# Altium integrated library Atmel Microcontroller 8-16-Bit AVR XMEGA.IntLib: 50 symbols (part 1 of 3)
Pins are listed as number, name and electrical type; pins without a type are passive.

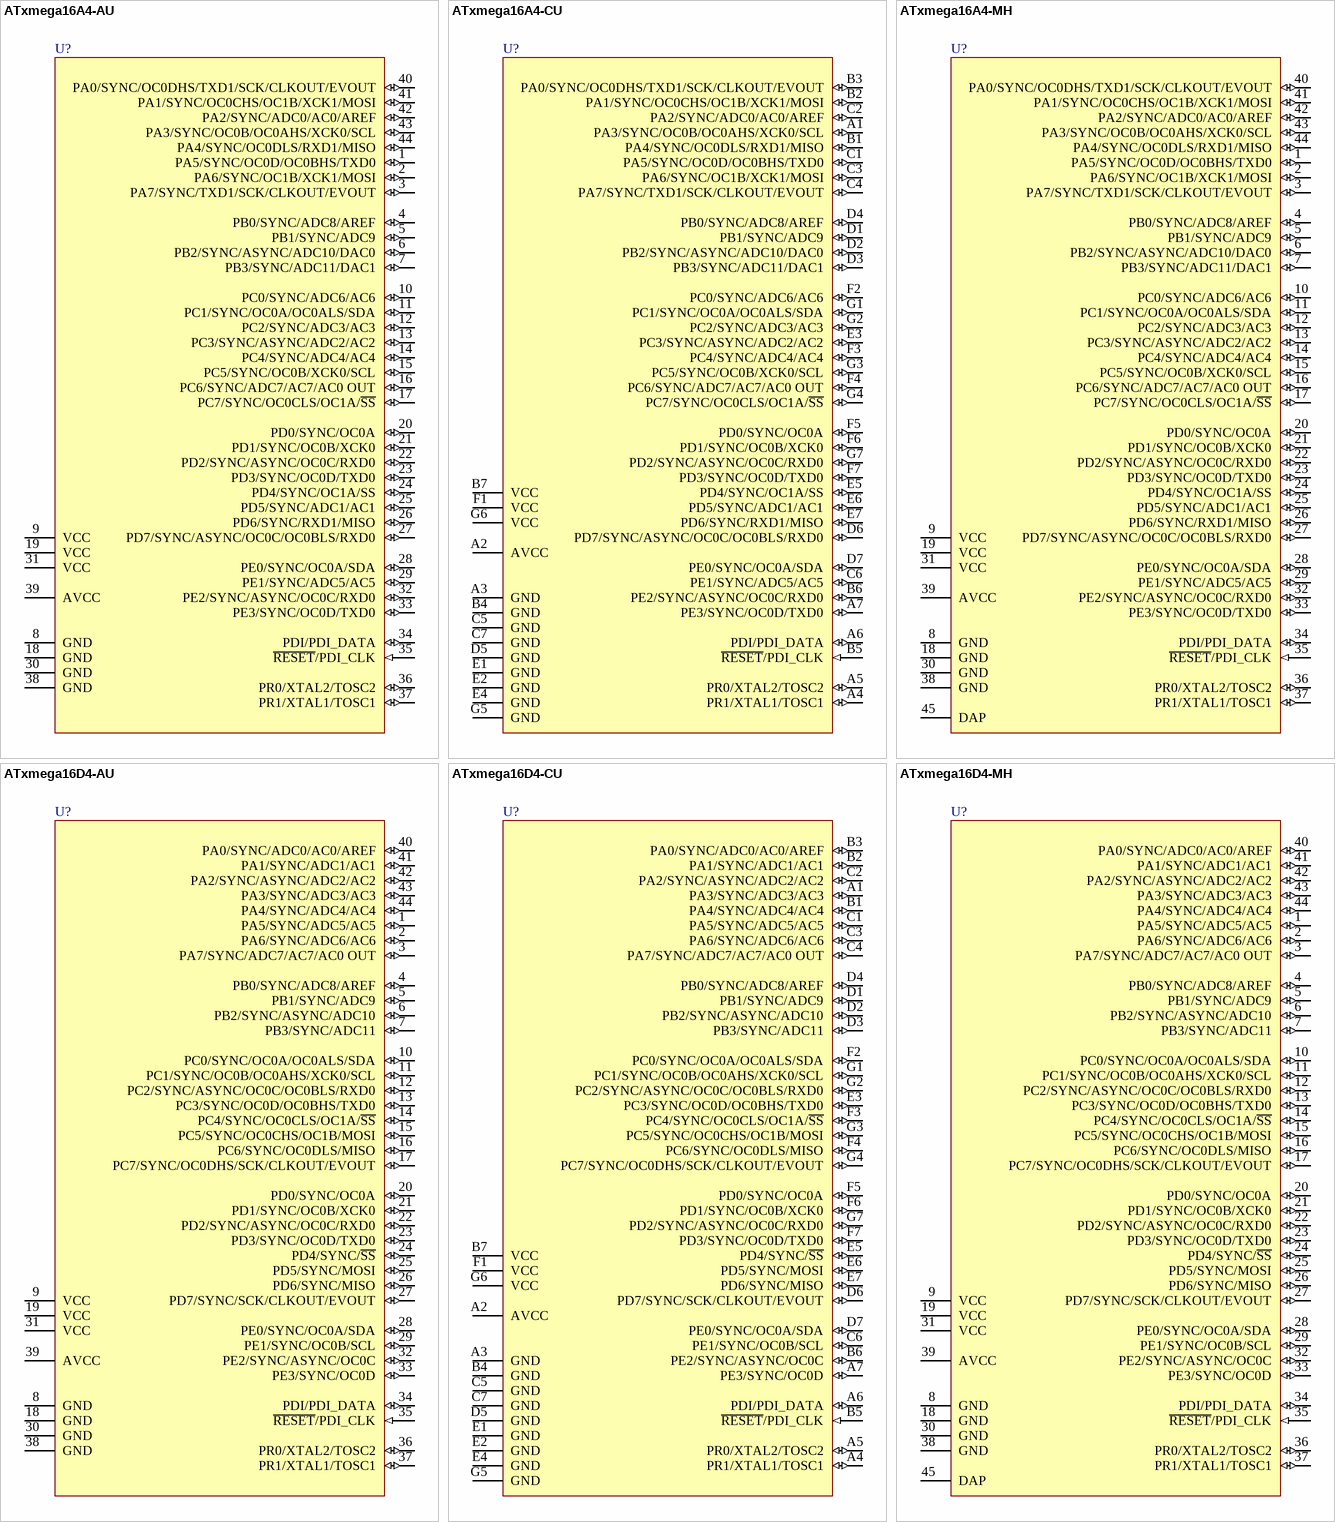
[diagram p0: symbols ATxmega16A4-AU to ATxmega16D4-MH]

## ATxmega16A4-AU
designator U?
8/16-bit AVR XMEGA A4 Microcontroller, 1.6-3.6V, 16KB + 4KB Flash, 1KB EEPROM, 2KB SRAM, 44-pin TQFP, Industrial Grade (-40°C to 85°C), Pb-Free; Published: 1-Apr-2010; DatasheetVersion: revN, Feb-2010; PackageVersion: rev.B, Oct-2001; PackageReference: 44A; Publisher: Altium Limited; PackageDescription: 44-Pin Plastic Thin Profile Quad Flat Pack, 10 x 10 x 1.0 mm Body, 0.8 mm Pitch (TQFP); Supplier 1: Digi-Key; Supplier Part Number 1: ATXMEGA16A4-AU-ND; Supplier 2: Farnell; Supplier Part Number 2: 1748552; Supplier 3: Mouser; Supplier Part Number 3: 556-ATXMEGA16A4-AU; ComponentLink1Description: Manufacturer Link; ComponentLink1URL: http://www.atmel.com/products/avr/default.asp?; ComponentLink2Description: ATxmega16A4/32A4/64A4/128A4 Datasheet; ComponentLink2URL: http://www.atmel.com/dyn/resources/prod_documents/doc8069.pdf; ComponentLink3Description: Atmel.com Home; ComponentLink3URL: http://www.atmel.com
footprint 44A_N (Thin QFP, 44-Leads, Body 10x10mm, Pitch 0.8mm, IPC Medium Density)
footprint 44A_L (Thin QFP, 44-Leads, Body 10x10mm, Pitch 0.8mm, IPC High Density)
footprint 44A_M (Thin QFP, 44-Leads, Body 10x10mm, Pitch 0.8mm, IPC Low Density)
pins: 1 PA5/SYNC/OC0D/OC0BHS/TXD0 (io), 2 PA6/SYNC/OC1B/XCK1/MOSI (io), 3 PA7/SYNC/TXD1/SCK/CLKOUT/EVOUT (io), 4 PB0/SYNC/ADC8/AREF (io), 5 PB1/SYNC/ADC9 (io), 6 PB2/SYNC/ASYNC/ADC10/DAC0 (io), 7 PB3/SYNC/ADC11/DAC1 (io), 8 GND (power), 9 VCC (power), 10 PC0/SYNC/ADC6/AC6 (io), 11 PC1/SYNC/OC0A/OC0ALS/SDA (io), 12 PC2/SYNC/ADC3/AC3 (io), 13 PC3/SYNC/ASYNC/ADC2/AC2 (io), 14 PC4/SYNC/ADC4/AC4 (io), 15 PC5/SYNC/OC0B/XCK0/SCL (io), 16 PC6/SYNC/ADC7/AC7/AC0 OUT (io), 17 PC7/SYNC/OC0CLS/OC1A/~{SS} (io), 18 GND (power), 19 VCC (power), 20 PD0/SYNC/OC0A (io), 21 PD1/SYNC/OC0B/XCK0 (io), 22 PD2/SYNC/ASYNC/OC0C/RXD0 (io), 23 PD3/SYNC/OC0D/TXD0 (io), 24 PD4/SYNC/OC1A/SS (io), 25 PD5/SYNC/ADC1/AC1 (io), 26 PD6/SYNC/RXD1/MISO (io), 27 PD7/SYNC/ASYNC/OC0C/OC0BLS/RXD0 (io), 28 PE0/SYNC/OC0A/SDA (io), 29 PE1/SYNC/ADC5/AC5 (io), 30 GND (power), 31 VCC (power), 32 PE2/SYNC/ASYNC/OC0C/RXD0 (io), 33 PE3/SYNC/OC0D/TXD0 (io), 34 PDI/PDI_DATA (io), 35 ~{RESET}/PDI_CLK (in), 36 PR0/XTAL2/TOSC2 (io), 37 PR1/XTAL1/TOSC1 (io), 38 GND (power), 39 AVCC (power), 40 PA0/SYNC/OC0DHS/TXD1/SCK/CLKOUT/EVOUT (io), 41 PA1/SYNC/OC0CHS/OC1B/XCK1/MOSI (io), 42 PA2/SYNC/ADC0/AC0/AREF (io), 43 PA3/SYNC/OC0B/OC0AHS/XCK0/SCL (io), 44 PA4/SYNC/OC0DLS/RXD1/MISO (io)

## ATxmega16A4-CU
designator U?
8/16-bit AVR XMEGA A4 Microcontroller, 1.6-3.6V, 16KB + 4KB Flash, 1KB EEPROM, 2KB SRAM, 49-pin VFBGA, Industrial Grade (-40°C to 85°C), Pb-Free; Published: 1-Apr-2010; DatasheetVersion: revN, Feb-2010; PackageVersion: revA, Mar-2008; PackageReference: 49C2; Publisher: Altium Limited; PackageDescription: 49-Ball Very Thin Fine-Pitch BGA, 5 x 5 x 1 mm Body, 0.65 mm Pitch (VFBGA); Supplier 1: Digi-Key; Supplier Part Number 1: ATXMEGA16A4-CU-ND; Supplier 2: Mouser; Supplier Part Number 2: 556-ATXMEGA16A4-CU; ComponentLink1Description: Manufacturer Link; ComponentLink1URL: http://www.atmel.com/products/avr/default.asp?; ComponentLink2Description: ATxmega16A4/32A4/64A4/128A4 Datasheet; ComponentLink2URL: http://www.atmel.com/dyn/resources/prod_documents/doc8069.pdf; ComponentLink3Description: Atmel.com Home; ComponentLink3URL: http://www.atmel.com
footprint 49C2 (BGA, 49-Leads, Body 5x5mm, Pitch 0.65mm)
pins: A1 PA3/SYNC/OC0B/OC0AHS/XCK0/SCL (io), A2 AVCC (power), A3 GND (power), A4 PR1/XTAL1/TOSC1 (io), A5 PR0/XTAL2/TOSC2 (io), A6 PDI/PDI_DATA (io), A7 PE3/SYNC/OC0D/TXD0 (io), B1 PA4/SYNC/OC0DLS/RXD1/MISO (io), B2 PA1/SYNC/OC0CHS/OC1B/XCK1/MOSI (io), B3 PA0/SYNC/OC0DHS/TXD1/SCK/CLKOUT/EVOUT (io), B4 GND (power), B5 ~{RESET}/PDI_CLK (in), B6 PE2/SYNC/ASYNC/OC0C/RXD0 (io), B7 VCC (power), C1 PA5/SYNC/OC0D/OC0BHS/TXD0 (io), C2 PA2/SYNC/ADC0/AC0/AREF (io), C3 PA6/SYNC/OC1B/XCK1/MOSI (io), C4 PA7/SYNC/TXD1/SCK/CLKOUT/EVOUT (io), C5 GND (power), C6 PE1/SYNC/ADC5/AC5 (io), C7 GND (power), D1 PB1/SYNC/ADC9 (io), D2 PB2/SYNC/ASYNC/ADC10/DAC0 (io), D3 PB3/SYNC/ADC11/DAC1 (io), D4 PB0/SYNC/ADC8/AREF (io), D5 GND (power), D6 PD7/SYNC/ASYNC/OC0C/OC0BLS/RXD0 (io), D7 PE0/SYNC/OC0A/SDA (io), E1 GND (power), E2 GND (power), E3 PC3/SYNC/ASYNC/ADC2/AC2 (io), E4 GND (power), E5 PD4/SYNC/OC1A/SS (io), E6 PD5/SYNC/ADC1/AC1 (io), E7 PD6/SYNC/RXD1/MISO (io), F1 VCC (power), F2 PC0/SYNC/ADC6/AC6 (io), F3 PC4/SYNC/ADC4/AC4 (io), F4 PC6/SYNC/ADC7/AC7/AC0 OUT (io), F5 PD0/SYNC/OC0A (io), F6 PD1/SYNC/OC0B/XCK0 (io), F7 PD3/SYNC/OC0D/TXD0 (io), G1 PC1/SYNC/OC0A/OC0ALS/SDA (io), G2 PC2/SYNC/ADC3/AC3 (io), G3 PC5/SYNC/OC0B/XCK0/SCL (io), G4 PC7/SYNC/OC0CLS/OC1A/~{SS} (io), G5 GND (power), G6 VCC (power), G7 PD2/SYNC/ASYNC/OC0C/RXD0 (io)

## ATxmega16A4-MH
designator U?
8/16-bit AVR XMEGA A4 Microcontroller, 1.6-3.6V, 16KB + 4KB Flash, 1KB EEPROM, 2KB SRAM, 44-pin VQFN, Industrial Grade (-40°C to 85°C), Pb-Free; Published: 1-Apr-2010; DatasheetVersion: revN, Feb-2010; PackageVersion: revH, Sep-2008; PackageReference: 44M1; Publisher: Altium Limited; PackageDescription: 44-Pin Plastic Very Thin Quad Flat No-Lead Package, 7 x 7 x 1.0 mm Body, 0.5 mm Pitch (VQFN), 5.2 mm Exposed Pad; Supplier 1: Digi-Key; Supplier Part Number 1: ATXMEGA16A4-MH-ND; Supplier 2: Mouser; Supplier Part Number 2: 556-ATXMEGA16A4-MH; Code_JEDEC: MO-220-VKKD-1; ComponentLink1Description: Manufacturer Link; ComponentLink1URL: http://www.atmel.com/products/avr/default.asp?; ComponentLink2Description: ATxmega16A4/32A4/64A4/128A4 Datasheet; ComponentLink2URL: http://www.atmel.com/dyn/resources/prod_documents/doc8069.pdf; ComponentLink3Description: Atmel.com Home; ComponentLink3URL: http://www.atmel.com
footprint 44M1_N (QFN, 44-Leads, Body 7x7mm, Pitch 0.5mm, IPC Medium Density)
footprint 44M1_L (QFN, 44-Leads, Body 7x7mm, Pitch 0.5mm, IPC High Density)
footprint 44M1_M (QFN, 44-Leads, Body 7x7mm, Pitch 0.5mm, IPC Low Density)
pins: 1 PA5/SYNC/OC0D/OC0BHS/TXD0 (io), 2 PA6/SYNC/OC1B/XCK1/MOSI (io), 3 PA7/SYNC/TXD1/SCK/CLKOUT/EVOUT (io), 4 PB0/SYNC/ADC8/AREF (io), 5 PB1/SYNC/ADC9 (io), 6 PB2/SYNC/ASYNC/ADC10/DAC0 (io), 7 PB3/SYNC/ADC11/DAC1 (io), 8 GND (power), 9 VCC (power), 10 PC0/SYNC/ADC6/AC6 (io), 11 PC1/SYNC/OC0A/OC0ALS/SDA (io), 12 PC2/SYNC/ADC3/AC3 (io), 13 PC3/SYNC/ASYNC/ADC2/AC2 (io), 14 PC4/SYNC/ADC4/AC4 (io), 15 PC5/SYNC/OC0B/XCK0/SCL (io), 16 PC6/SYNC/ADC7/AC7/AC0 OUT (io), 17 PC7/SYNC/OC0CLS/OC1A/~{SS} (io), 18 GND (power), 19 VCC (power), 20 PD0/SYNC/OC0A (io), 21 PD1/SYNC/OC0B/XCK0 (io), 22 PD2/SYNC/ASYNC/OC0C/RXD0 (io), 23 PD3/SYNC/OC0D/TXD0 (io), 24 PD4/SYNC/OC1A/SS (io), 25 PD5/SYNC/ADC1/AC1 (io), 26 PD6/SYNC/RXD1/MISO (io), 27 PD7/SYNC/ASYNC/OC0C/OC0BLS/RXD0 (io), 28 PE0/SYNC/OC0A/SDA (io), 29 PE1/SYNC/ADC5/AC5 (io), 30 GND (power), 31 VCC (power), 32 PE2/SYNC/ASYNC/OC0C/RXD0 (io), 33 PE3/SYNC/OC0D/TXD0 (io), 34 PDI/PDI_DATA (io), 35 ~{RESET}/PDI_CLK (in), 36 PR0/XTAL2/TOSC2 (io), 37 PR1/XTAL1/TOSC1 (io), 38 GND (power), 39 AVCC (power), 40 PA0/SYNC/OC0DHS/TXD1/SCK/CLKOUT/EVOUT (io), 41 PA1/SYNC/OC0CHS/OC1B/XCK1/MOSI (io), 42 PA2/SYNC/ADC0/AC0/AREF (io), 43 PA3/SYNC/OC0B/OC0AHS/XCK0/SCL (io), 44 PA4/SYNC/OC0DLS/RXD1/MISO (io), 45 DAP (power)

## ATxmega16D4-AU
designator U?
8/16-bit AVR XMEGA D4 Microcontroller, 1.6-3.6V, 16KB + 4KB Flash, 1KB EEPROM, 2KB SRAM, 44-pin TQFP, Industrial Grade (-40°C to 85°C), Pb-Free; Published: 1-Apr-2010; DatasheetVersion: revF, Feb-2010; PackageVersion: rev.B, Oct-2001; PackageReference: 44A; Publisher: Altium Limited; PackageDescription: 44-Pin Plastic Thin Profile Quad Flat Pack, 10 x 10 x 1.0 mm Body, 0.8 mm Pitch (TQFP); Supplier 1: Digi-Key; Supplier Part Number 1: ATXMEGA16D4-AU-ND; Supplier 2: Farnell; Supplier Part Number 2: 1748553; Supplier 3: Mouser; Supplier Part Number 3: 556-ATXMEGA16D4-AU; ComponentLink1Description: Manufacturer Link; ComponentLink1URL: http://www.atmel.com/products/avr/default.asp?; ComponentLink2Description: ATxmega128D4/64D4/32D4/16D4 Datasheet; ComponentLink2URL: http://www.atmel.com/dyn/resources/prod_documents/doc8135.pdf; ComponentLink3Description: Atmel.com Home; ComponentLink3URL: http://www.atmel.com
footprint 44A_N (Thin QFP, 44-Leads, Body 10x10mm, Pitch 0.8mm, IPC Medium Density)
footprint 44A_L (Thin QFP, 44-Leads, Body 10x10mm, Pitch 0.8mm, IPC High Density)
footprint 44A_M (Thin QFP, 44-Leads, Body 10x10mm, Pitch 0.8mm, IPC Low Density)
pins: 1 PA5/SYNC/ADC5/AC5 (io), 2 PA6/SYNC/ADC6/AC6 (io), 3 PA7/SYNC/ADC7/AC7/AC0 OUT (io), 4 PB0/SYNC/ADC8/AREF (io), 5 PB1/SYNC/ADC9 (io), 6 PB2/SYNC/ASYNC/ADC10 (io), 7 PB3/SYNC/ADC11 (io), 8 GND (power), 9 VCC (power), 10 PC0/SYNC/OC0A/OC0ALS/SDA (io), 11 PC1/SYNC/OC0B/OC0AHS/XCK0/SCL (io), 12 PC2/SYNC/ASYNC/OC0C/OC0BLS/RXD0 (io), 13 PC3/SYNC/OC0D/OC0BHS/TXD0 (io), 14 PC4/SYNC/OC0CLS/OC1A/~{SS} (io), 15 PC5/SYNC/OC0CHS/OC1B/MOSI (io), 16 PC6/SYNC/OC0DLS/MISO (io), 17 PC7/SYNC/OC0DHS/SCK/CLKOUT/EVOUT (io), 18 GND (power), 19 VCC (power), 20 PD0/SYNC/OC0A (io), 21 PD1/SYNC/OC0B/XCK0 (io), 22 PD2/SYNC/ASYNC/OC0C/RXD0 (io), 23 PD3/SYNC/OC0D/TXD0 (io), 24 PD4/SYNC/~{SS} (io), 25 PD5/SYNC/MOSI (io), 26 PD6/SYNC/MISO (io), 27 PD7/SYNC/SCK/CLKOUT/EVOUT (io), 28 PE0/SYNC/OC0A/SDA (io), 29 PE1/SYNC/OC0B/SCL (io), 30 GND (power), 31 VCC (power), 32 PE2/SYNC/ASYNC/OC0C (io), 33 PE3/SYNC/OC0D (io), 34 PDI/PDI_DATA (io), 35 ~{RESET}/PDI_CLK (in), 36 PR0/XTAL2/TOSC2 (io), 37 PR1/XTAL1/TOSC1 (io), 38 GND (power), 39 AVCC (power), 40 PA0/SYNC/ADC0/AC0/AREF (io), 41 PA1/SYNC/ADC1/AC1 (io), 42 PA2/SYNC/ASYNC/ADC2/AC2 (io), 43 PA3/SYNC/ADC3/AC3 (io), 44 PA4/SYNC/ADC4/AC4 (io)

## ATxmega16D4-CU
designator U?
8/16-bit AVR XMEGA D4 Microcontroller, 1.6-3.6V, 16KB + 4KB Flash, 1KB EEPROM, 2KB SRAM, 49-pin VFBGA, Industrial Grade (-40°C to 85°C), Pb-Free; Published: 1-Apr-2010; DatasheetVersion: revF, Feb-2010; PackageVersion: revA, Mar-2008; PackageReference: 49C2; Publisher: Altium Limited; PackageDescription: 49-Ball Very Thin Fine-Pitch BGA, 5 x 5 x 1 mm Body, 0.65 mm Pitch (VFBGA); Supplier 1: Digi-Key; Supplier Part Number 1: ATXMEGA16D4-CU-ND; Supplier 2: Mouser; Supplier Part Number 2: 556-ATXMEGA16D4-CU; ComponentLink1Description: Manufacturer Link; ComponentLink1URL: http://www.atmel.com/products/avr/default.asp?; ComponentLink2Description: ATxmega128D4/64D4/32D4/16D4 Datasheet; ComponentLink2URL: http://www.atmel.com/dyn/resources/prod_documents/doc8135.pdf; ComponentLink3Description: Atmel.com Home; ComponentLink3URL: http://www.atmel.com
footprint 49C2 (BGA, 49-Leads, Body 5x5mm, Pitch 0.65mm)
pins: A1 PA3/SYNC/ADC3/AC3 (io), A2 AVCC (power), A3 GND (power), A4 PR1/XTAL1/TOSC1 (io), A5 PR0/XTAL2/TOSC2 (io), A6 PDI/PDI_DATA (io), A7 PE3/SYNC/OC0D (io), B1 PA4/SYNC/ADC4/AC4 (io), B2 PA1/SYNC/ADC1/AC1 (io), B3 PA0/SYNC/ADC0/AC0/AREF (io), B4 GND (power), B5 ~{RESET}/PDI_CLK (in), B6 PE2/SYNC/ASYNC/OC0C (io), B7 VCC (power), C1 PA5/SYNC/ADC5/AC5 (io), C2 PA2/SYNC/ASYNC/ADC2/AC2 (io), C3 PA6/SYNC/ADC6/AC6 (io), C4 PA7/SYNC/ADC7/AC7/AC0 OUT (io), C5 GND (power), C6 PE1/SYNC/OC0B/SCL (io), C7 GND (power), D1 PB1/SYNC/ADC9 (io), D2 PB2/SYNC/ASYNC/ADC10 (io), D3 PB3/SYNC/ADC11 (io), D4 PB0/SYNC/ADC8/AREF (io), D5 GND (power), D6 PD7/SYNC/SCK/CLKOUT/EVOUT (io), D7 PE0/SYNC/OC0A/SDA (io), E1 GND (power), E2 GND (power), E3 PC3/SYNC/OC0D/OC0BHS/TXD0 (io), E4 GND (power), E5 PD4/SYNC/~{SS} (io), E6 PD5/SYNC/MOSI (io), E7 PD6/SYNC/MISO (io), F1 VCC (power), F2 PC0/SYNC/OC0A/OC0ALS/SDA (io), F3 PC4/SYNC/OC0CLS/OC1A/~{SS} (io), F4 PC6/SYNC/OC0DLS/MISO (io), F5 PD0/SYNC/OC0A (io), F6 PD1/SYNC/OC0B/XCK0 (io), F7 PD3/SYNC/OC0D/TXD0 (io), G1 PC1/SYNC/OC0B/OC0AHS/XCK0/SCL (io), G2 PC2/SYNC/ASYNC/OC0C/OC0BLS/RXD0 (io), G3 PC5/SYNC/OC0CHS/OC1B/MOSI (io), G4 PC7/SYNC/OC0DHS/SCK/CLKOUT/EVOUT (io), G5 GND (power), G6 VCC (power), G7 PD2/SYNC/ASYNC/OC0C/RXD0 (io)

## ATxmega16D4-MH
designator U?
8/16-bit AVR XMEGA D4 Microcontroller, 1.6-3.6V, 16KB + 4KB Flash, 1KB EEPROM, 2KB SRAM, 44-pin VQFN, Industrial Grade (-40°C to 85°C), Pb-Free; Published: 1-Apr-2010; DatasheetVersion: revF, Feb-2010; PackageVersion: revH, Sep-2008; PackageReference: 44M1; Publisher: Altium Limited; PackageDescription: 44-Pin Plastic Very Thin Quad Flat No-Lead Package, 7 x 7 x 1.0 mm Body, 0.5 mm Pitch (VQFN), 5.2 mm Exposed Pad; Supplier 1: Digi-Key; Supplier Part Number 1: ATXMEGA16D4-MH-ND; Supplier 2: Mouser; Supplier Part Number 2: 556-ATXMEGA16D4-MH; Code_JEDEC: MO-220-VKKD-1; ComponentLink1Description: Manufacturer Link; ComponentLink1URL: http://www.atmel.com/products/avr/default.asp?; ComponentLink2Description: ATxmega128D4/64D4/32D4/16D4 Datasheet; ComponentLink2URL: http://www.atmel.com/dyn/resources/prod_documents/doc8135.pdf; ComponentLink3Description: Atmel.com Home; ComponentLink3URL: http://www.atmel.com
footprint 44M1_N (QFN, 44-Leads, Body 7x7mm, Pitch 0.5mm, IPC Medium Density)
footprint 44M1_L (QFN, 44-Leads, Body 7x7mm, Pitch 0.5mm, IPC High Density)
footprint 44M1_M (QFN, 44-Leads, Body 7x7mm, Pitch 0.5mm, IPC Low Density)
pins: 1 PA5/SYNC/ADC5/AC5 (io), 2 PA6/SYNC/ADC6/AC6 (io), 3 PA7/SYNC/ADC7/AC7/AC0 OUT (io), 4 PB0/SYNC/ADC8/AREF (io), 5 PB1/SYNC/ADC9 (io), 6 PB2/SYNC/ASYNC/ADC10 (io), 7 PB3/SYNC/ADC11 (io), 8 GND (power), 9 VCC (power), 10 PC0/SYNC/OC0A/OC0ALS/SDA (io), 11 PC1/SYNC/OC0B/OC0AHS/XCK0/SCL (io), 12 PC2/SYNC/ASYNC/OC0C/OC0BLS/RXD0 (io), 13 PC3/SYNC/OC0D/OC0BHS/TXD0 (io), 14 PC4/SYNC/OC0CLS/OC1A/~{SS} (io), 15 PC5/SYNC/OC0CHS/OC1B/MOSI (io), 16 PC6/SYNC/OC0DLS/MISO (io), 17 PC7/SYNC/OC0DHS/SCK/CLKOUT/EVOUT (io), 18 GND (power), 19 VCC (power), 20 PD0/SYNC/OC0A (io), 21 PD1/SYNC/OC0B/XCK0 (io), 22 PD2/SYNC/ASYNC/OC0C/RXD0 (io), 23 PD3/SYNC/OC0D/TXD0 (io), 24 PD4/SYNC/~{SS} (io), 25 PD5/SYNC/MOSI (io), 26 PD6/SYNC/MISO (io), 27 PD7/SYNC/SCK/CLKOUT/EVOUT (io), 28 PE0/SYNC/OC0A/SDA (io), 29 PE1/SYNC/OC0B/SCL (io), 30 GND (power), 31 VCC (power), 32 PE2/SYNC/ASYNC/OC0C (io), 33 PE3/SYNC/OC0D (io), 34 PDI/PDI_DATA (io), 35 ~{RESET}/PDI_CLK (in), 36 PR0/XTAL2/TOSC2 (io), 37 PR1/XTAL1/TOSC1 (io), 38 GND (power), 39 AVCC (power), 40 PA0/SYNC/ADC0/AC0/AREF (io), 41 PA1/SYNC/ADC1/AC1 (io), 42 PA2/SYNC/ASYNC/ADC2/AC2 (io), 43 PA3/SYNC/ADC3/AC3 (io), 44 PA4/SYNC/ADC4/AC4 (io), 45 DAP (power)

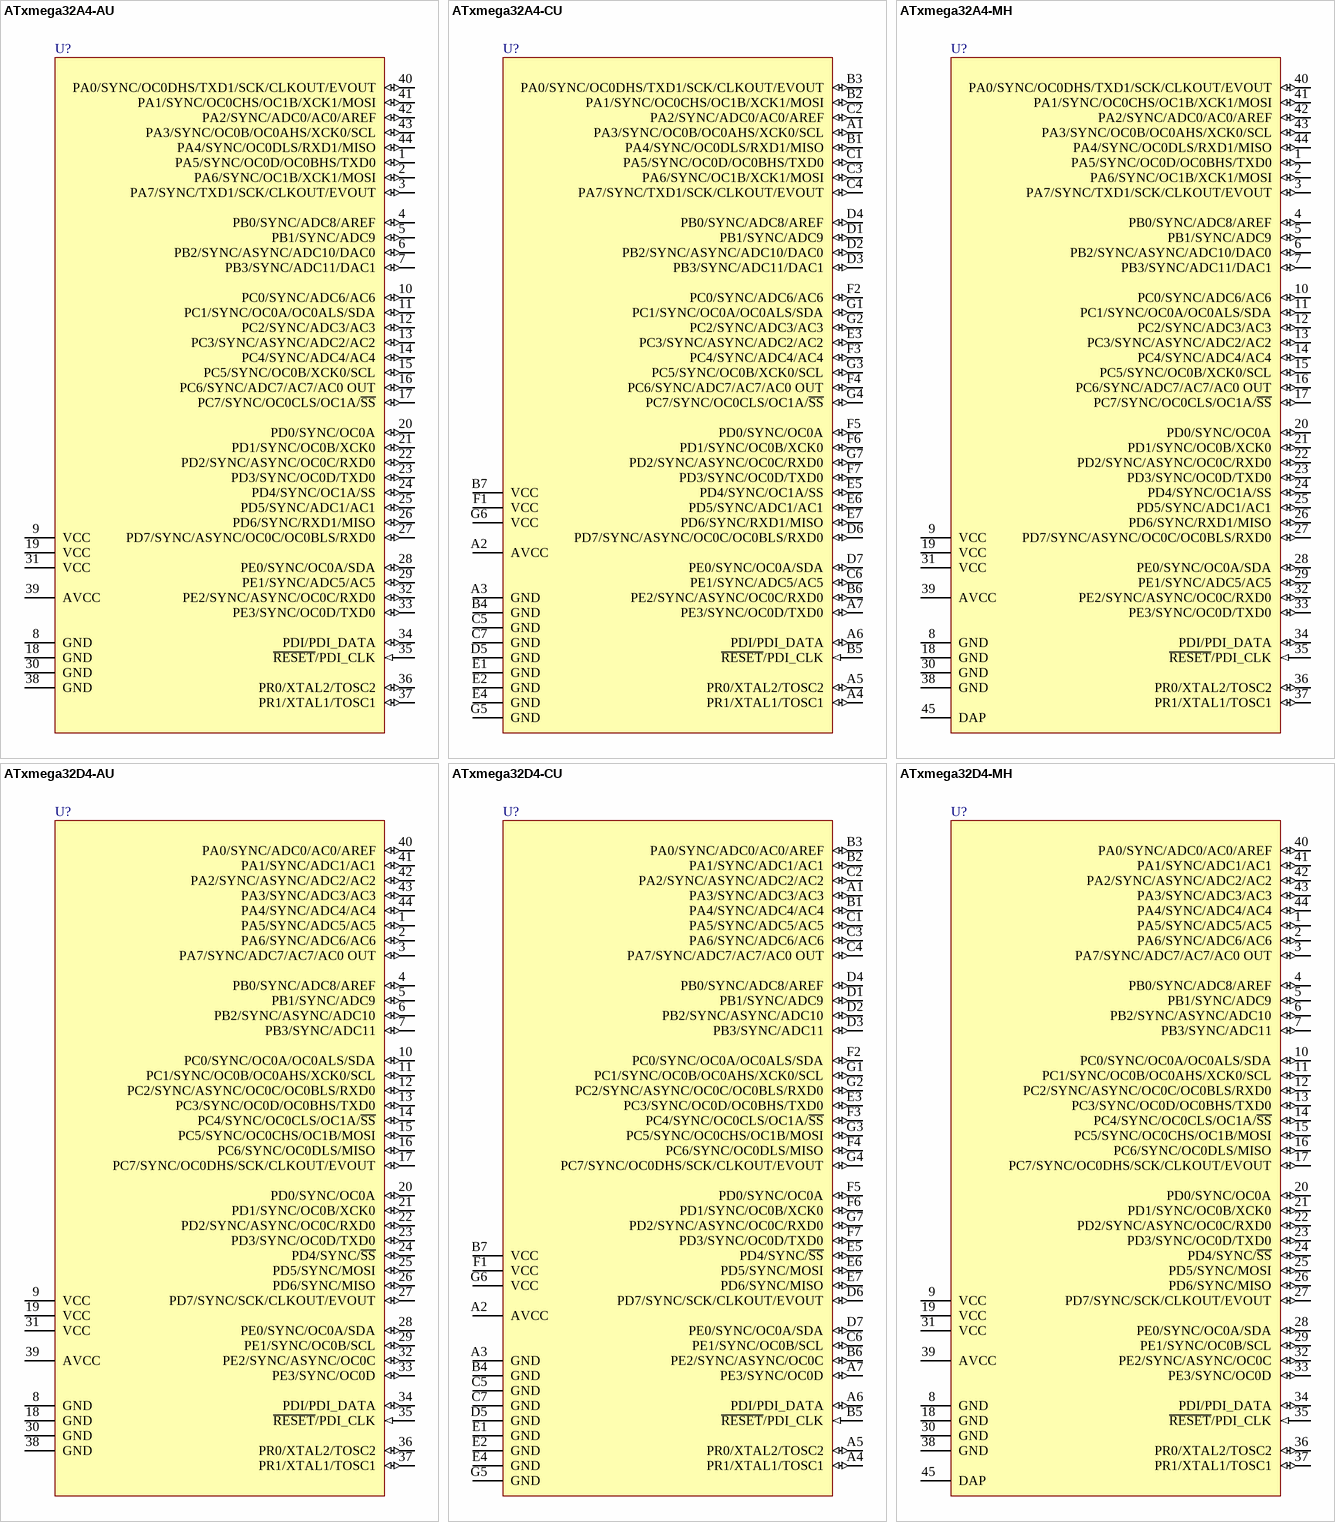
[diagram p1: symbols ATxmega32A4-AU to ATxmega32D4-MH]

## ATxmega32A4-AU
designator U?
8/16-bit AVR XMEGA A4 Microcontroller, 1.6-3.6V, 32KB + 4KB Flash, 1KB EEPROM, 4KB SRAM, 44-pin TQFP, Industrial Grade (-40°C to 85°C), Pb-Free; Published: 1-Apr-2010; DatasheetVersion: revN, Feb-2010; PackageVersion: rev.B, Oct-2001; PackageReference: 44A; Publisher: Altium Limited; PackageDescription: 44-Pin Plastic Thin Profile Quad Flat Pack, 10 x 10 x 1.0 mm Body, 0.8 mm Pitch (TQFP); Supplier 1: Digi-Key; Supplier Part Number 1: ATXMEGA32A4-AU-ND; Supplier 2: Farnell; Supplier Part Number 2: 1748557; Supplier 3: Mouser; Supplier Part Number 3: 556-ATXMEGA32A4-AU; ComponentLink1Description: Manufacturer Link; ComponentLink1URL: http://www.atmel.com/products/avr/default.asp?; ComponentLink2Description: ATxmega16A4/32A4/64A4/128A4 Datasheet; ComponentLink2URL: http://www.atmel.com/dyn/resources/prod_documents/doc8069.pdf; ComponentLink3Description: Atmel.com Home; ComponentLink3URL: http://www.atmel.com
footprint 44A_N (Thin QFP, 44-Leads, Body 10x10mm, Pitch 0.8mm, IPC Medium Density)
footprint 44A_L (Thin QFP, 44-Leads, Body 10x10mm, Pitch 0.8mm, IPC High Density)
footprint 44A_M (Thin QFP, 44-Leads, Body 10x10mm, Pitch 0.8mm, IPC Low Density)
pins: 1 PA5/SYNC/OC0D/OC0BHS/TXD0 (io), 2 PA6/SYNC/OC1B/XCK1/MOSI (io), 3 PA7/SYNC/TXD1/SCK/CLKOUT/EVOUT (io), 4 PB0/SYNC/ADC8/AREF (io), 5 PB1/SYNC/ADC9 (io), 6 PB2/SYNC/ASYNC/ADC10/DAC0 (io), 7 PB3/SYNC/ADC11/DAC1 (io), 8 GND (power), 9 VCC (power), 10 PC0/SYNC/ADC6/AC6 (io), 11 PC1/SYNC/OC0A/OC0ALS/SDA (io), 12 PC2/SYNC/ADC3/AC3 (io), 13 PC3/SYNC/ASYNC/ADC2/AC2 (io), 14 PC4/SYNC/ADC4/AC4 (io), 15 PC5/SYNC/OC0B/XCK0/SCL (io), 16 PC6/SYNC/ADC7/AC7/AC0 OUT (io), 17 PC7/SYNC/OC0CLS/OC1A/~{SS} (io), 18 GND (power), 19 VCC (power), 20 PD0/SYNC/OC0A (io), 21 PD1/SYNC/OC0B/XCK0 (io), 22 PD2/SYNC/ASYNC/OC0C/RXD0 (io), 23 PD3/SYNC/OC0D/TXD0 (io), 24 PD4/SYNC/OC1A/SS (io), 25 PD5/SYNC/ADC1/AC1 (io), 26 PD6/SYNC/RXD1/MISO (io), 27 PD7/SYNC/ASYNC/OC0C/OC0BLS/RXD0 (io), 28 PE0/SYNC/OC0A/SDA (io), 29 PE1/SYNC/ADC5/AC5 (io), 30 GND (power), 31 VCC (power), 32 PE2/SYNC/ASYNC/OC0C/RXD0 (io), 33 PE3/SYNC/OC0D/TXD0 (io), 34 PDI/PDI_DATA (io), 35 ~{RESET}/PDI_CLK (in), 36 PR0/XTAL2/TOSC2 (io), 37 PR1/XTAL1/TOSC1 (io), 38 GND (power), 39 AVCC (power), 40 PA0/SYNC/OC0DHS/TXD1/SCK/CLKOUT/EVOUT (io), 41 PA1/SYNC/OC0CHS/OC1B/XCK1/MOSI (io), 42 PA2/SYNC/ADC0/AC0/AREF (io), 43 PA3/SYNC/OC0B/OC0AHS/XCK0/SCL (io), 44 PA4/SYNC/OC0DLS/RXD1/MISO (io)

## ATxmega32A4-CU
designator U?
8/16-bit AVR XMEGA A4 Microcontroller, 1.6-3.6V, 32KB + 4K Flash, 1KB EEPROM, 4KB SRAM, 49-pin VFBGA, Industrial Grade (-40°C to 85°C), Pb-Free; Published: 1-Apr-2010; DatasheetVersion: revN, Feb-2010; PackageVersion: revA, Mar-2008; PackageReference: 49C2; Publisher: Altium Limited; PackageDescription: 49-Ball Very Thin Fine-Pitch BGA, 5 x 5 x 1 mm Body, 0.65 mm Pitch (VFBGA); Supplier 1: Digi-Key; Supplier Part Number 1: ATXMEGA32A4-CU-ND; Supplier 2: Mouser; Supplier Part Number 2: 556-ATXMEGA32A4-CU; ComponentLink1Description: Manufacturer Link; ComponentLink1URL: http://www.atmel.com/products/avr/default.asp?; ComponentLink2Description: ATxmega16A4/32A4/64A4/128A4 Datasheet; ComponentLink2URL: http://www.atmel.com/dyn/resources/prod_documents/doc8069.pdf; ComponentLink3Description: Atmel.com Home; ComponentLink3URL: http://www.atmel.com
footprint 49C2 (BGA, 49-Leads, Body 5x5mm, Pitch 0.65mm)
pins: A1 PA3/SYNC/OC0B/OC0AHS/XCK0/SCL (io), A2 AVCC (power), A3 GND (power), A4 PR1/XTAL1/TOSC1 (io), A5 PR0/XTAL2/TOSC2 (io), A6 PDI/PDI_DATA (io), A7 PE3/SYNC/OC0D/TXD0 (io), B1 PA4/SYNC/OC0DLS/RXD1/MISO (io), B2 PA1/SYNC/OC0CHS/OC1B/XCK1/MOSI (io), B3 PA0/SYNC/OC0DHS/TXD1/SCK/CLKOUT/EVOUT (io), B4 GND (power), B5 ~{RESET}/PDI_CLK (in), B6 PE2/SYNC/ASYNC/OC0C/RXD0 (io), B7 VCC (power), C1 PA5/SYNC/OC0D/OC0BHS/TXD0 (io), C2 PA2/SYNC/ADC0/AC0/AREF (io), C3 PA6/SYNC/OC1B/XCK1/MOSI (io), C4 PA7/SYNC/TXD1/SCK/CLKOUT/EVOUT (io), C5 GND (power), C6 PE1/SYNC/ADC5/AC5 (io), C7 GND (power), D1 PB1/SYNC/ADC9 (io), D2 PB2/SYNC/ASYNC/ADC10/DAC0 (io), D3 PB3/SYNC/ADC11/DAC1 (io), D4 PB0/SYNC/ADC8/AREF (io), D5 GND (power), D6 PD7/SYNC/ASYNC/OC0C/OC0BLS/RXD0 (io), D7 PE0/SYNC/OC0A/SDA (io), E1 GND (power), E2 GND (power), E3 PC3/SYNC/ASYNC/ADC2/AC2 (io), E4 GND (power), E5 PD4/SYNC/OC1A/SS (io), E6 PD5/SYNC/ADC1/AC1 (io), E7 PD6/SYNC/RXD1/MISO (io), F1 VCC (power), F2 PC0/SYNC/ADC6/AC6 (io), F3 PC4/SYNC/ADC4/AC4 (io), F4 PC6/SYNC/ADC7/AC7/AC0 OUT (io), F5 PD0/SYNC/OC0A (io), F6 PD1/SYNC/OC0B/XCK0 (io), F7 PD3/SYNC/OC0D/TXD0 (io), G1 PC1/SYNC/OC0A/OC0ALS/SDA (io), G2 PC2/SYNC/ADC3/AC3 (io), G3 PC5/SYNC/OC0B/XCK0/SCL (io), G4 PC7/SYNC/OC0CLS/OC1A/~{SS} (io), G5 GND (power), G6 VCC (power), G7 PD2/SYNC/ASYNC/OC0C/RXD0 (io)

## ATxmega32A4-MH
designator U?
8/16-bit AVR XMEGA A4 Microcontroller, 1.6-3.6V, 32KB + 4KB Flash, 1KB EEPROM, 4KB SRAM, 44-pin VQFN, Industrial Grade (-40°C to 85°C), Pb-Free; Published: 1-Apr-2010; DatasheetVersion: revN, Feb-2010; PackageVersion: revH, Sep-2008; PackageReference: 44M1; Publisher: Altium Limited; PackageDescription: 44-Pin Plastic Very Thin Quad Flat No-Lead Package, 7 x 7 x 1.0 mm Body, 0.5 mm Pitch (VQFN), 5.2 mm Exposed Pad; Supplier 1: Digi-Key; Supplier Part Number 1: ATXMEGA32A4-MH-ND; Supplier 2: Mouser; Supplier Part Number 2: 556-ATXMEGA32A4-MH; Code_JEDEC: MO-220-VKKD-1; ComponentLink1Description: Manufacturer Link; ComponentLink1URL: http://www.atmel.com/products/avr/default.asp?; ComponentLink2Description: ATxmega16A4/32A4/64A4/128A4 Datasheet; ComponentLink2URL: http://www.atmel.com/dyn/resources/prod_documents/doc8069.pdf; ComponentLink3Description: Atmel.com Home; ComponentLink3URL: http://www.atmel.com
footprint 44M1_N (QFN, 44-Leads, Body 7x7mm, Pitch 0.5mm, IPC Medium Density)
footprint 44M1_L (QFN, 44-Leads, Body 7x7mm, Pitch 0.5mm, IPC High Density)
footprint 44M1_M (QFN, 44-Leads, Body 7x7mm, Pitch 0.5mm, IPC Low Density)
pins: 1 PA5/SYNC/OC0D/OC0BHS/TXD0 (io), 2 PA6/SYNC/OC1B/XCK1/MOSI (io), 3 PA7/SYNC/TXD1/SCK/CLKOUT/EVOUT (io), 4 PB0/SYNC/ADC8/AREF (io), 5 PB1/SYNC/ADC9 (io), 6 PB2/SYNC/ASYNC/ADC10/DAC0 (io), 7 PB3/SYNC/ADC11/DAC1 (io), 8 GND (power), 9 VCC (power), 10 PC0/SYNC/ADC6/AC6 (io), 11 PC1/SYNC/OC0A/OC0ALS/SDA (io), 12 PC2/SYNC/ADC3/AC3 (io), 13 PC3/SYNC/ASYNC/ADC2/AC2 (io), 14 PC4/SYNC/ADC4/AC4 (io), 15 PC5/SYNC/OC0B/XCK0/SCL (io), 16 PC6/SYNC/ADC7/AC7/AC0 OUT (io), 17 PC7/SYNC/OC0CLS/OC1A/~{SS} (io), 18 GND (power), 19 VCC (power), 20 PD0/SYNC/OC0A (io), 21 PD1/SYNC/OC0B/XCK0 (io), 22 PD2/SYNC/ASYNC/OC0C/RXD0 (io), 23 PD3/SYNC/OC0D/TXD0 (io), 24 PD4/SYNC/OC1A/SS (io), 25 PD5/SYNC/ADC1/AC1 (io), 26 PD6/SYNC/RXD1/MISO (io), 27 PD7/SYNC/ASYNC/OC0C/OC0BLS/RXD0 (io), 28 PE0/SYNC/OC0A/SDA (io), 29 PE1/SYNC/ADC5/AC5 (io), 30 GND (power), 31 VCC (power), 32 PE2/SYNC/ASYNC/OC0C/RXD0 (io), 33 PE3/SYNC/OC0D/TXD0 (io), 34 PDI/PDI_DATA (io), 35 ~{RESET}/PDI_CLK (in), 36 PR0/XTAL2/TOSC2 (io), 37 PR1/XTAL1/TOSC1 (io), 38 GND (power), 39 AVCC (power), 40 PA0/SYNC/OC0DHS/TXD1/SCK/CLKOUT/EVOUT (io), 41 PA1/SYNC/OC0CHS/OC1B/XCK1/MOSI (io), 42 PA2/SYNC/ADC0/AC0/AREF (io), 43 PA3/SYNC/OC0B/OC0AHS/XCK0/SCL (io), 44 PA4/SYNC/OC0DLS/RXD1/MISO (io), 45 DAP (power)

## ATxmega32D4-AU
designator U?
8/16-bit AVR XMEGA D4 Microcontroller, 1.6-3.6V, 32KB + 4KB Flash, 1KB EEPROM, 4KB SRAM, 44-pin TQFP, Industrial Grade (-40°C to 85°C), Pb-Free; Published: 1-Apr-2010; DatasheetVersion: revF, Feb-2010; PackageVersion: rev.B, Oct-2001; PackageReference: 44A; Publisher: Altium Limited; PackageDescription: 44-Pin Plastic Thin Profile Quad Flat Pack, 10 x 10 x 1.0 mm Body, 0.8 mm Pitch (TQFP); Supplier 1: Digi-Key; Supplier Part Number 1: ATXMEGA32D4-AU-ND; Supplier 2: Farnell; Supplier Part Number 2: 1748558; Supplier 3: Mouser; Supplier Part Number 3: 556-ATXMEGA32D4-AU; ComponentLink1Description: Manufacturer Link; ComponentLink1URL: http://www.atmel.com/products/avr/default.asp?; ComponentLink2Description: ATxmega128D4/64D4/32D4/16D4 Datasheet; ComponentLink2URL: http://www.atmel.com/dyn/resources/prod_documents/doc8135.pdf; ComponentLink3Description: Atmel.com Home; ComponentLink3URL: http://www.atmel.com
footprint 44A_N (Thin QFP, 44-Leads, Body 10x10mm, Pitch 0.8mm, IPC Medium Density)
footprint 44A_L (Thin QFP, 44-Leads, Body 10x10mm, Pitch 0.8mm, IPC High Density)
footprint 44A_M (Thin QFP, 44-Leads, Body 10x10mm, Pitch 0.8mm, IPC Low Density)
pins: 1 PA5/SYNC/ADC5/AC5 (io), 2 PA6/SYNC/ADC6/AC6 (io), 3 PA7/SYNC/ADC7/AC7/AC0 OUT (io), 4 PB0/SYNC/ADC8/AREF (io), 5 PB1/SYNC/ADC9 (io), 6 PB2/SYNC/ASYNC/ADC10 (io), 7 PB3/SYNC/ADC11 (io), 8 GND (power), 9 VCC (power), 10 PC0/SYNC/OC0A/OC0ALS/SDA (io), 11 PC1/SYNC/OC0B/OC0AHS/XCK0/SCL (io), 12 PC2/SYNC/ASYNC/OC0C/OC0BLS/RXD0 (io), 13 PC3/SYNC/OC0D/OC0BHS/TXD0 (io), 14 PC4/SYNC/OC0CLS/OC1A/~{SS} (io), 15 PC5/SYNC/OC0CHS/OC1B/MOSI (io), 16 PC6/SYNC/OC0DLS/MISO (io), 17 PC7/SYNC/OC0DHS/SCK/CLKOUT/EVOUT (io), 18 GND (power), 19 VCC (power), 20 PD0/SYNC/OC0A (io), 21 PD1/SYNC/OC0B/XCK0 (io), 22 PD2/SYNC/ASYNC/OC0C/RXD0 (io), 23 PD3/SYNC/OC0D/TXD0 (io), 24 PD4/SYNC/~{SS} (io), 25 PD5/SYNC/MOSI (io), 26 PD6/SYNC/MISO (io), 27 PD7/SYNC/SCK/CLKOUT/EVOUT (io), 28 PE0/SYNC/OC0A/SDA (io), 29 PE1/SYNC/OC0B/SCL (io), 30 GND (power), 31 VCC (power), 32 PE2/SYNC/ASYNC/OC0C (io), 33 PE3/SYNC/OC0D (io), 34 PDI/PDI_DATA (io), 35 ~{RESET}/PDI_CLK (in), 36 PR0/XTAL2/TOSC2 (io), 37 PR1/XTAL1/TOSC1 (io), 38 GND (power), 39 AVCC (power), 40 PA0/SYNC/ADC0/AC0/AREF (io), 41 PA1/SYNC/ADC1/AC1 (io), 42 PA2/SYNC/ASYNC/ADC2/AC2 (io), 43 PA3/SYNC/ADC3/AC3 (io), 44 PA4/SYNC/ADC4/AC4 (io)

## ATxmega32D4-CU
designator U?
8/16-bit AVR XMEGA D4 Microcontroller, 1.6-3.6V, 32KB + 4KB Flash, 1KB EEPROM, 4KB SRAM, 49-pin VFBGA, Industrial Grade (-40°C to 85°C), Pb-Free; Published: 1-Apr-2010; DatasheetVersion: revF, Feb-2010; PackageVersion: revA, Mar-2008; PackageReference: 49C2; Publisher: Altium Limited; PackageDescription: 49-Ball Very Thin Fine-Pitch BGA, 5 x 5 x 1 mm Body, 0.65 mm Pitch (VFBGA); Supplier 1: Digi-Key; Supplier Part Number 1: ATXMEGA32D4-CU-ND; Supplier 2: Mouser; Supplier Part Number 2: 556-ATXMEGA32D4-CU; ComponentLink1Description: Manufacturer Link; ComponentLink1URL: http://www.atmel.com/products/avr/default.asp?; ComponentLink2Description: ATxmega128D4/64D4/32D4/16D4 Datasheet; ComponentLink2URL: http://www.atmel.com/dyn/resources/prod_documents/doc8135.pdf; ComponentLink3Description: Atmel.com Home; ComponentLink3URL: http://www.atmel.com
footprint 49C2 (BGA, 49-Leads, Body 5x5mm, Pitch 0.65mm)
pins: A1 PA3/SYNC/ADC3/AC3 (io), A2 AVCC (power), A3 GND (power), A4 PR1/XTAL1/TOSC1 (io), A5 PR0/XTAL2/TOSC2 (io), A6 PDI/PDI_DATA (io), A7 PE3/SYNC/OC0D (io), B1 PA4/SYNC/ADC4/AC4 (io), B2 PA1/SYNC/ADC1/AC1 (io), B3 PA0/SYNC/ADC0/AC0/AREF (io), B4 GND (power), B5 ~{RESET}/PDI_CLK (in), B6 PE2/SYNC/ASYNC/OC0C (io), B7 VCC (power), C1 PA5/SYNC/ADC5/AC5 (io), C2 PA2/SYNC/ASYNC/ADC2/AC2 (io), C3 PA6/SYNC/ADC6/AC6 (io), C4 PA7/SYNC/ADC7/AC7/AC0 OUT (io), C5 GND (power), C6 PE1/SYNC/OC0B/SCL (io), C7 GND (power), D1 PB1/SYNC/ADC9 (io), D2 PB2/SYNC/ASYNC/ADC10 (io), D3 PB3/SYNC/ADC11 (io), D4 PB0/SYNC/ADC8/AREF (io), D5 GND (power), D6 PD7/SYNC/SCK/CLKOUT/EVOUT (io), D7 PE0/SYNC/OC0A/SDA (io), E1 GND (power), E2 GND (power), E3 PC3/SYNC/OC0D/OC0BHS/TXD0 (io), E4 GND (power), E5 PD4/SYNC/~{SS} (io), E6 PD5/SYNC/MOSI (io), E7 PD6/SYNC/MISO (io), F1 VCC (power), F2 PC0/SYNC/OC0A/OC0ALS/SDA (io), F3 PC4/SYNC/OC0CLS/OC1A/~{SS} (io), F4 PC6/SYNC/OC0DLS/MISO (io), F5 PD0/SYNC/OC0A (io), F6 PD1/SYNC/OC0B/XCK0 (io), F7 PD3/SYNC/OC0D/TXD0 (io), G1 PC1/SYNC/OC0B/OC0AHS/XCK0/SCL (io), G2 PC2/SYNC/ASYNC/OC0C/OC0BLS/RXD0 (io), G3 PC5/SYNC/OC0CHS/OC1B/MOSI (io), G4 PC7/SYNC/OC0DHS/SCK/CLKOUT/EVOUT (io), G5 GND (power), G6 VCC (power), G7 PD2/SYNC/ASYNC/OC0C/RXD0 (io)

## ATxmega32D4-MH
designator U?
8/16-bit AVR XMEGA D4 Microcontroller, 1.6-3.6V, 32KB + 4KB Flash, 1KB EEPROM, 4KB SRAM, 44-pin VQFN, Industrial Grade (-40°C to 85°C), Pb-Free; Published: 1-Apr-2010; DatasheetVersion: revF, Feb-2010; PackageVersion: revH, Sep-2008; PackageReference: 44M1; Publisher: Altium Limited; PackageDescription: 44-Pin Plastic Very Thin Quad Flat No-Lead Package, 7 x 7 x 1.0 mm Body, 0.5 mm Pitch (VQFN), 5.2 mm Exposed Pad; Supplier 1: Digi-Key; Supplier Part Number 1: ATXMEGA32D4-MH-ND; Supplier 2: Mouser; Supplier Part Number 2: 556-ATXMEGA32D4-MH; Code_JEDEC: MO-220-VKKD-1; ComponentLink1Description: Manufacturer Link; ComponentLink1URL: http://www.atmel.com/products/avr/default.asp?; ComponentLink2Description: ATxmega128D4/64D4/32D4/16D4 Datasheet; ComponentLink2URL: http://www.atmel.com/dyn/resources/prod_documents/doc8135.pdf; ComponentLink3Description: Atmel.com Home; ComponentLink3URL: http://www.atmel.com
footprint 44M1_N (QFN, 44-Leads, Body 7x7mm, Pitch 0.5mm, IPC Medium Density)
footprint 44M1_L (QFN, 44-Leads, Body 7x7mm, Pitch 0.5mm, IPC High Density)
footprint 44M1_M (QFN, 44-Leads, Body 7x7mm, Pitch 0.5mm, IPC Low Density)
pins: 1 PA5/SYNC/ADC5/AC5 (io), 2 PA6/SYNC/ADC6/AC6 (io), 3 PA7/SYNC/ADC7/AC7/AC0 OUT (io), 4 PB0/SYNC/ADC8/AREF (io), 5 PB1/SYNC/ADC9 (io), 6 PB2/SYNC/ASYNC/ADC10 (io), 7 PB3/SYNC/ADC11 (io), 8 GND (power), 9 VCC (power), 10 PC0/SYNC/OC0A/OC0ALS/SDA (io), 11 PC1/SYNC/OC0B/OC0AHS/XCK0/SCL (io), 12 PC2/SYNC/ASYNC/OC0C/OC0BLS/RXD0 (io), 13 PC3/SYNC/OC0D/OC0BHS/TXD0 (io), 14 PC4/SYNC/OC0CLS/OC1A/~{SS} (io), 15 PC5/SYNC/OC0CHS/OC1B/MOSI (io), 16 PC6/SYNC/OC0DLS/MISO (io), 17 PC7/SYNC/OC0DHS/SCK/CLKOUT/EVOUT (io), 18 GND (power), 19 VCC (power), 20 PD0/SYNC/OC0A (io), 21 PD1/SYNC/OC0B/XCK0 (io), 22 PD2/SYNC/ASYNC/OC0C/RXD0 (io), 23 PD3/SYNC/OC0D/TXD0 (io), 24 PD4/SYNC/~{SS} (io), 25 PD5/SYNC/MOSI (io), 26 PD6/SYNC/MISO (io), 27 PD7/SYNC/SCK/CLKOUT/EVOUT (io), 28 PE0/SYNC/OC0A/SDA (io), 29 PE1/SYNC/OC0B/SCL (io), 30 GND (power), 31 VCC (power), 32 PE2/SYNC/ASYNC/OC0C (io), 33 PE3/SYNC/OC0D (io), 34 PDI/PDI_DATA (io), 35 ~{RESET}/PDI_CLK (in), 36 PR0/XTAL2/TOSC2 (io), 37 PR1/XTAL1/TOSC1 (io), 38 GND (power), 39 AVCC (power), 40 PA0/SYNC/ADC0/AC0/AREF (io), 41 PA1/SYNC/ADC1/AC1 (io), 42 PA2/SYNC/ASYNC/ADC2/AC2 (io), 43 PA3/SYNC/ADC3/AC3 (io), 44 PA4/SYNC/ADC4/AC4 (io), 45 DAP (power)

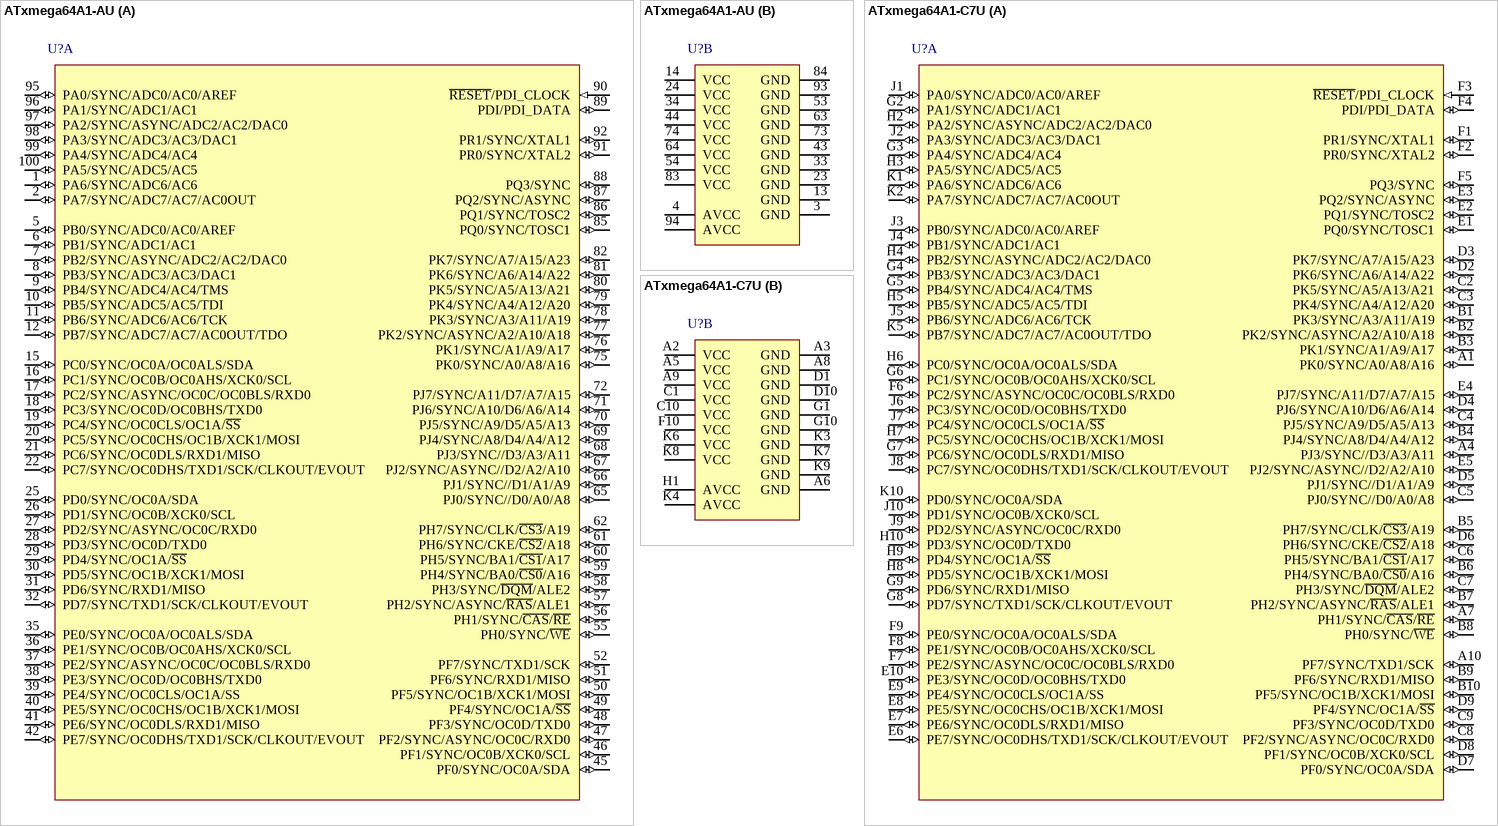
[diagram p2: symbols ATxmega64A1-AU to ATxmega64A1-C7U]

## ATxmega64A1-AU
designator U?
8/16-bit AVR XMEGA A1 Microcontroller, 1.6-3.6V, 64KB + 4KB Flash, 2KB EEPROM, 4KB SRAM, 100-pin TQFP, Industrial Grade (-40°C to 85°C), Pb-Free; Published: 1-Apr-2010; DatasheetVersion: revK, Feb-2010; PackageVersion: revC, Oct-2001; PackageReference: 100A; Publisher: Altium Limited; PackageDescription: 100-Pin Thin Profile Plastic Quad Flat Pack (TQFP), 14 x 14 x 1.0 mm Body, 0.5 mm Pitch; Supplier 1: Digi-Key; Supplier Part Number 1: ATXMEGA64A1-AU-ND; Supplier 2: Farnell; Supplier Part Number 2: 1715520; Supplier 3: Mouser; Supplier Part Number 3: 556-ATXMEGA64A1-AU; Code_JEDEC: MS-026-AED; ComponentLink1Description: Manufacturer Link; ComponentLink1URL: http://www.atmel.com/products/avr/default.asp?; ComponentLink2Description: ATxmega64A1/128A1/192A1/256A1/384A1 Datasheet; ComponentLink2URL: http://www.atmel.com/dyn/resources/prod_documents/doc8067.pdf; ComponentLink3Description: Atmel.com Home; ComponentLink3URL: http://www.atmel.com
footprint 100A_N (Thin QFP, 100-Leads, Body 14x14mm, Pitch 0.5mm, IPC Medium Density)
footprint 100A_L (Thin QFP, 100-Leads, Body 14x14mm, Pitch 0.5mm, IPC High Density)
footprint 100A_M (Thin QFP, 100-Leads, Body 14x14mm, Pitch 0.5mm, IPC Low Density)
part A pins: 1 PA6/SYNC/ADC6/AC6 (io), 2 PA7/SYNC/ADC7/AC7/AC0OUT (io), 5 PB0/SYNC/ADC0/AC0/AREF (io), 6 PB1/SYNC/ADC1/AC1 (io), 7 PB2/SYNC/ASYNC/ADC2/AC2/DAC0 (io), 8 PB3/SYNC/ADC3/AC3/DAC1 (io), 9 PB4/SYNC/ADC4/AC4/TMS (io), 10 PB5/SYNC/ADC5/AC5/TDI (io), 11 PB6/SYNC/ADC6/AC6/TCK (io), 12 PB7/SYNC/ADC7/AC7/AC0OUT/TDO (io), 15 PC0/SYNC/OC0A/OC0ALS/SDA (io), 16 PC1/SYNC/OC0B/OC0AHS/XCK0/SCL (io), 17 PC2/SYNC/ASYNC/OC0C/OC0BLS/RXD0 (io), 18 PC3/SYNC/OC0D/OC0BHS/TXD0 (io), 19 PC4/SYNC/OC0CLS/OC1A/~{SS} (io), 20 PC5/SYNC/OC0CHS/OC1B/XCK1/MOSI (io), 21 PC6/SYNC/OC0DLS/RXD1/MISO (io), 22 PC7/SYNC/OC0DHS/TXD1/SCK/CLKOUT/EVOUT (io), 25 PD0/SYNC/OC0A/SDA (io), 26 PD1/SYNC/OC0B/XCK0/SCL (io), 27 PD2/SYNC/ASYNC/OC0C/RXD0 (io), 28 PD3/SYNC/OC0D/TXD0 (io), 29 PD4/SYNC/OC1A/~{SS} (io), 30 PD5/SYNC/OC1B/XCK1/MOSI (io), 31 PD6/SYNC/RXD1/MISO (io), 32 PD7/SYNC/TXD1/SCK/CLKOUT/EVOUT (io), 35 PE0/SYNC/OC0A/OC0ALS/SDA (io), 36 PE1/SYNC/OC0B/OC0AHS/XCK0/SCL (io), 37 PE2/SYNC/ASYNC/OC0C/OC0BLS/RXD0 (io), 38 PE3/SYNC/OC0D/OC0BHS/TXD0 (io), 39 PE4/SYNC/OC0CLS/OC1A/SS (io), 40 PE5/SYNC/OC0CHS/OC1B/XCK1/MOSI (io), 41 PE6/SYNC/OC0DLS/RXD1/MISO (io), 42 PE7/SYNC/OC0DHS/TXD1/SCK/CLKOUT/EVOUT (io), 45 PF0/SYNC/OC0A/SDA (io), 46 PF1/SYNC/OC0B/XCK0/SCL (io), 47 PF2/SYNC/ASYNC/OC0C/RXD0 (io), 48 PF3/SYNC/OC0D/TXD0 (io), 49 PF4/SYNC/OC1A/~{SS} (io), 50 PF5/SYNC/OC1B/XCK1/MOSI (io), 51 PF6/SYNC/RXD1/MISO (io), 52 PF7/SYNC/TXD1/SCK (io), 55 PH0/SYNC/~{WE} (io), 56 PH1/SYNC/~{CAS}/~{RE} (io), 57 PH2/SYNC/ASYNC/~{RAS}/ALE1 (io), 58 PH3/SYNC/~{DQM}/ALE2 (io), 59 PH4/SYNC/BA0/~{CS0}/A16 (io), 60 PH5/SYNC/BA1/~{CS1}/A17 (io), 61 PH6/SYNC/CKE/~{CS2}/A18 (io), 62 PH7/SYNC/CLK/~{CS3}/A19 (io), 65 PJ0/SYNC//D0/A0/A8 (io), 66 PJ1/SYNC//D1/A1/A9 (io), 67 PJ2/SYNC/ASYNC//D2/A2/A10 (io), 68 PJ3/SYNC//D3/A3/A11 (io), 69 PJ4/SYNC/A8/D4/A4/A12 (io), 70 PJ5/SYNC/A9/D5/A5/A13 (io), 71 PJ6/SYNC/A10/D6/A6/A14 (io), 72 PJ7/SYNC/A11/D7/A7/A15 (io), 75 PK0/SYNC/A0/A8/A16 (io), 76 PK1/SYNC/A1/A9/A17 (io), 77 PK2/SYNC/ASYNC/A2/A10/A18 (io), 78 PK3/SYNC/A3/A11/A19 (io), 79 PK4/SYNC/A4/A12/A20 (io), 80 PK5/SYNC/A5/A13/A21 (io), 81 PK6/SYNC/A6/A14/A22 (io), 82 PK7/SYNC/A7/A15/A23 (io), 85 PQ0/SYNC/TOSC1 (io), 86 PQ1/SYNC/TOSC2 (io), 87 PQ2/SYNC/ASYNC (io), 88 PQ3/SYNC (io), 89 PDI/PDI_DATA (io), 90 ~{RESET}/PDI_CLOCK (in), 91 PR0/SYNC/XTAL2 (io), 92 PR1/SYNC/XTAL1 (io), 95 PA0/SYNC/ADC0/AC0/AREF (io), 96 PA1/SYNC/ADC1/AC1 (io), 97 PA2/SYNC/ASYNC/ADC2/AC2/DAC0 (io), 98 PA3/SYNC/ADC3/AC3/DAC1 (io), 99 PA4/SYNC/ADC4/AC4 (io), 100 PA5/SYNC/ADC5/AC5 (io)
part B pins: 3 GND (power), 4 AVCC (power), 13 GND (power), 14 VCC (power), 23 GND (power), 24 VCC (power), 33 GND (power), 34 VCC (power), 43 GND (power), 44 VCC (power), 53 GND (power), 54 VCC (power), 63 GND (power), 64 VCC (power), 73 GND (power), 74 VCC (power), 83 VCC (power), 84 GND (power), 93 GND (power), 94 AVCC (power)

## ATxmega64A1-C7U
designator U?
8/16-bit AVR XMEGA A1 Microcontroller, 1.6-3.6V, 64KB + 4KB Flash, 2KB EEPROM, 4KB SRAM, 100-pin VFBGA, Industrial Grade (-40°C to 85°C), Pb-Free; Published: 1-Apr-2010; DatasheetVersion: revK, Feb-2010; PackageVersion: revA, Dec-2008; PackageReference: 100C2; Publisher: Altium Limited; PackageDescription: 100-Ball Very Thin Fine-Pitch BGA (10x10 Array), 7x7x1 mm Body, 0.65 mm Pitch (VFBGA); Supplier 1: Digi-Key; Supplier Part Number 1: ATXMEGA64A1-C7U-ND; Supplier 2: Mouser; Supplier Part Number 2: 556-ATXMEGA64A1-C7U; ComponentLink1Description: Manufacturer Link; ComponentLink1URL: http://www.atmel.com/products/avr/default.asp?; ComponentLink2Description: ATxmega64A1/128A1/192A1/256A1/384A1 Datasheet; ComponentLink2URL: http://www.atmel.com/dyn/resources/prod_documents/doc8067.pdf; ComponentLink3Description: Atmel.com Home; ComponentLink3URL: http://www.atmel.com
footprint 100C2 (BGA, 100-Leads, Body 7x7mm, Pitch 0.65mm)
part A pins: A1 PK0/SYNC/A0/A8/A16 (io), A4 PJ3/SYNC//D3/A3/A11 (io), A7 PH1/SYNC/~{CAS}/~{RE} (io), A10 PF7/SYNC/TXD1/SCK (io), B1 PK3/SYNC/A3/A11/A19 (io), B2 PK2/SYNC/ASYNC/A2/A10/A18 (io), B3 PK1/SYNC/A1/A9/A17 (io), B4 PJ4/SYNC/A8/D4/A4/A12 (io), B5 PH7/SYNC/CLK/~{CS3}/A19 (io), B6 PH4/SYNC/BA0/~{CS0}/A16 (io), B7 PH2/SYNC/ASYNC/~{RAS}/ALE1 (io), B8 PH0/SYNC/~{WE} (io), B9 PF6/SYNC/RXD1/MISO (io), B10 PF5/SYNC/OC1B/XCK1/MOSI (io), C2 PK5/SYNC/A5/A13/A21 (io), C3 PK4/SYNC/A4/A12/A20 (io), C4 PJ5/SYNC/A9/D5/A5/A13 (io), C5 PJ0/SYNC//D0/A0/A8 (io), C6 PH5/SYNC/BA1/~{CS1}/A17 (io), C7 PH3/SYNC/~{DQM}/ALE2 (io), C8 PF2/SYNC/ASYNC/OC0C/RXD0 (io), C9 PF3/SYNC/OC0D/TXD0 (io), D2 PK6/SYNC/A6/A14/A22 (io), D3 PK7/SYNC/A7/A15/A23 (io), D4 PJ6/SYNC/A10/D6/A6/A14 (io), D5 PJ1/SYNC//D1/A1/A9 (io), D6 PH6/SYNC/CKE/~{CS2}/A18 (io), D7 PF0/SYNC/OC0A/SDA (io), D8 PF1/SYNC/OC0B/XCK0/SCL (io), D9 PF4/SYNC/OC1A/~{SS} (io), E1 PQ0/SYNC/TOSC1 (io), E2 PQ1/SYNC/TOSC2 (io), E3 PQ2/SYNC/ASYNC (io), E4 PJ7/SYNC/A11/D7/A7/A15 (io), E5 PJ2/SYNC/ASYNC//D2/A2/A10 (io), E6 PE7/SYNC/OC0DHS/TXD1/SCK/CLKOUT/EVOUT (io), E7 PE6/SYNC/OC0DLS/RXD1/MISO (io), E8 PE5/SYNC/OC0CHS/OC1B/XCK1/MOSI (io), E9 PE4/SYNC/OC0CLS/OC1A/SS (io), E10 PE3/SYNC/OC0D/OC0BHS/TXD0 (io), F1 PR1/SYNC/XTAL1 (io), F2 PR0/SYNC/XTAL2 (io), F3 ~{RESET}/PDI_CLOCK (in), F4 PDI/PDI_DATA (io), F5 PQ3/SYNC (io), F6 PC2/SYNC/ASYNC/OC0C/OC0BLS/RXD0 (io), F7 PE2/SYNC/ASYNC/OC0C/OC0BLS/RXD0 (io), F8 PE1/SYNC/OC0B/OC0AHS/XCK0/SCL (io), F9 PE0/SYNC/OC0A/OC0ALS/SDA (io), G2 PA1/SYNC/ADC1/AC1 (io), G3 PA4/SYNC/ADC4/AC4 (io), G4 PB3/SYNC/ADC3/AC3/DAC1 (io), G5 PB4/SYNC/ADC4/AC4/TMS (io), G6 PC1/SYNC/OC0B/OC0AHS/XCK0/SCL (io), G7 PC6/SYNC/OC0DLS/RXD1/MISO (io), G8 PD7/SYNC/TXD1/SCK/CLKOUT/EVOUT (io), G9 PD6/SYNC/RXD1/MISO (io), H2 PA2/SYNC/ASYNC/ADC2/AC2/DAC0 (io), H3 PA5/SYNC/ADC5/AC5 (io), H4 PB2/SYNC/ASYNC/ADC2/AC2/DAC0 (io), H5 PB5/SYNC/ADC5/AC5/TDI (io), H6 PC0/SYNC/OC0A/OC0ALS/SDA (io), H7 PC5/SYNC/OC0CHS/OC1B/XCK1/MOSI (io), H8 PD5/SYNC/OC1B/XCK1/MOSI (io), H9 PD4/SYNC/OC1A/~{SS} (io), H10 PD3/SYNC/OC0D/TXD0 (io), J1 PA0/SYNC/ADC0/AC0/AREF (io), J2 PA3/SYNC/ADC3/AC3/DAC1 (io), J3 PB0/SYNC/ADC0/AC0/AREF (io), J4 PB1/SYNC/ADC1/AC1 (io), J5 PB6/SYNC/ADC6/AC6/TCK (io), J6 PC3/SYNC/OC0D/OC0BHS/TXD0 (io), J7 PC4/SYNC/OC0CLS/OC1A/~{SS} (io), J8 PC7/SYNC/OC0DHS/TXD1/SCK/CLKOUT/EVOUT (io), J9 PD2/SYNC/ASYNC/OC0C/RXD0 (io), J10 PD1/SYNC/OC0B/XCK0/SCL (io), K1 PA6/SYNC/ADC6/AC6 (io), K2 PA7/SYNC/ADC7/AC7/AC0OUT (io), K5 PB7/SYNC/ADC7/AC7/AC0OUT/TDO (io), K10 PD0/SYNC/OC0A/SDA (io)
part B pins: A2 VCC (power), A3 GND (power), A5 VCC (power), A6 GND (power), A8 GND (power), A9 VCC (power), C1 VCC (power), C10 VCC (power), D1 GND (power), D10 GND (power), F10 VCC (power), G1 GND (power), G10 GND (power), H1 AVCC (power), K3 GND (power), K4 AVCC (power), K6 VCC (power), K7 GND (power), K8 VCC (power), K9 GND (power)

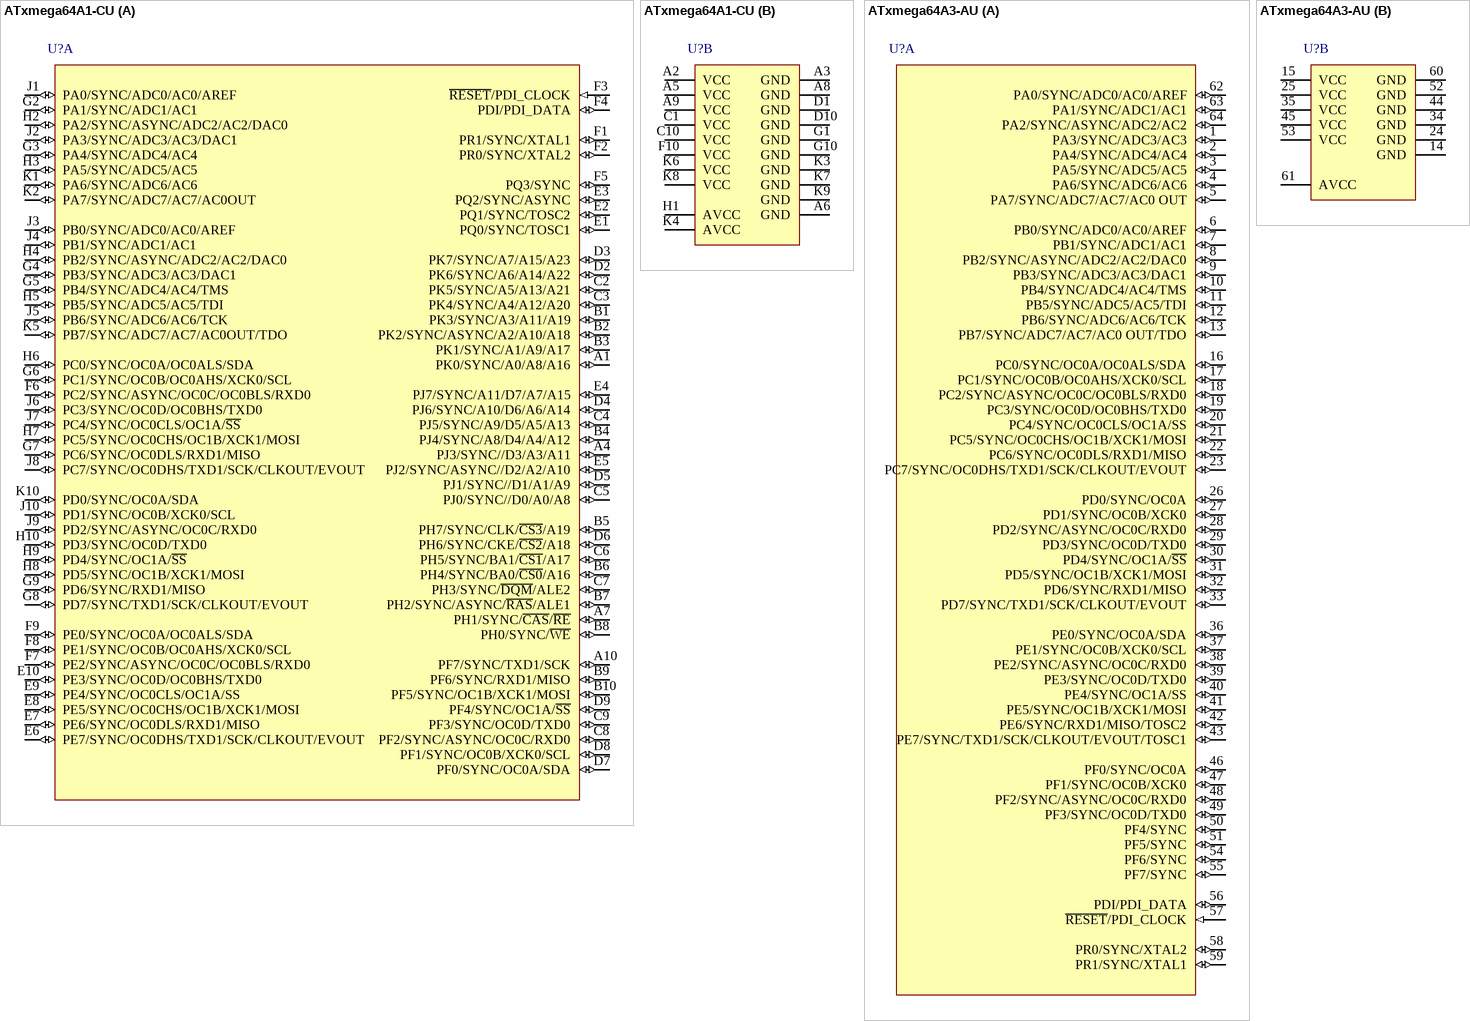
[diagram p3: symbols ATxmega64A1-CU to ATxmega64A3-AU]

## ATxmega64A1-CU
designator U?
8/16-bit AVR XMEGA A1 Microcontroller, 1.6-3.6V, 64KB + 4KB Flash, 2KB EEPROM, 4KB SRAM, 100-pin CBGA, Industrial Grade (-40°C to 85°C), Pb-Free; Published: 1-Apr-2010; DatasheetVersion: revK, Feb-2010; PackageVersion: revA, May-2006; PackageReference: 100C1; Publisher: Altium Limited; PackageDescription: 100-Ball Chip Array BGA Package (CBGA), 9 x 9 x1.2 mm Body, 0.80 mm Pitch; Supplier 1: Digi-Key; Supplier Part Number 1: ATXMEGA64A1-CU-ND; Supplier 2: Mouser; Supplier Part Number 2: 556-ATXMEGA64A1-CU; ComponentLink1Description: Manufacturer Link; ComponentLink1URL: http://www.atmel.com/products/avr/default.asp?; ComponentLink2Description: ATxmega64A1/128A1/192A1/256A1/384A1 Datasheet; ComponentLink2URL: http://www.atmel.com/dyn/resources/prod_documents/doc8067.pdf; ComponentLink3Description: Atmel.com Home; ComponentLink3URL: http://www.atmel.com
footprint 100C1 (BGA, 100-Leads, Body 9x9mm, Pitch 0.8mm)
part A pins: A1 PK0/SYNC/A0/A8/A16 (io), A4 PJ3/SYNC//D3/A3/A11 (io), A7 PH1/SYNC/~{CAS}/~{RE} (io), A10 PF7/SYNC/TXD1/SCK (io), B1 PK3/SYNC/A3/A11/A19 (io), B2 PK2/SYNC/ASYNC/A2/A10/A18 (io), B3 PK1/SYNC/A1/A9/A17 (io), B4 PJ4/SYNC/A8/D4/A4/A12 (io), B5 PH7/SYNC/CLK/~{CS3}/A19 (io), B6 PH4/SYNC/BA0/~{CS0}/A16 (io), B7 PH2/SYNC/ASYNC/~{RAS}/ALE1 (io), B8 PH0/SYNC/~{WE} (io), B9 PF6/SYNC/RXD1/MISO (io), B10 PF5/SYNC/OC1B/XCK1/MOSI (io), C2 PK5/SYNC/A5/A13/A21 (io), C3 PK4/SYNC/A4/A12/A20 (io), C4 PJ5/SYNC/A9/D5/A5/A13 (io), C5 PJ0/SYNC//D0/A0/A8 (io), C6 PH5/SYNC/BA1/~{CS1}/A17 (io), C7 PH3/SYNC/~{DQM}/ALE2 (io), C8 PF2/SYNC/ASYNC/OC0C/RXD0 (io), C9 PF3/SYNC/OC0D/TXD0 (io), D2 PK6/SYNC/A6/A14/A22 (io), D3 PK7/SYNC/A7/A15/A23 (io), D4 PJ6/SYNC/A10/D6/A6/A14 (io), D5 PJ1/SYNC//D1/A1/A9 (io), D6 PH6/SYNC/CKE/~{CS2}/A18 (io), D7 PF0/SYNC/OC0A/SDA (io), D8 PF1/SYNC/OC0B/XCK0/SCL (io), D9 PF4/SYNC/OC1A/~{SS} (io), E1 PQ0/SYNC/TOSC1 (io), E2 PQ1/SYNC/TOSC2 (io), E3 PQ2/SYNC/ASYNC (io), E4 PJ7/SYNC/A11/D7/A7/A15 (io), E5 PJ2/SYNC/ASYNC//D2/A2/A10 (io), E6 PE7/SYNC/OC0DHS/TXD1/SCK/CLKOUT/EVOUT (io), E7 PE6/SYNC/OC0DLS/RXD1/MISO (io), E8 PE5/SYNC/OC0CHS/OC1B/XCK1/MOSI (io), E9 PE4/SYNC/OC0CLS/OC1A/SS (io), E10 PE3/SYNC/OC0D/OC0BHS/TXD0 (io), F1 PR1/SYNC/XTAL1 (io), F2 PR0/SYNC/XTAL2 (io), F3 ~{RESET}/PDI_CLOCK (in), F4 PDI/PDI_DATA (io), F5 PQ3/SYNC (io), F6 PC2/SYNC/ASYNC/OC0C/OC0BLS/RXD0 (io), F7 PE2/SYNC/ASYNC/OC0C/OC0BLS/RXD0 (io), F8 PE1/SYNC/OC0B/OC0AHS/XCK0/SCL (io), F9 PE0/SYNC/OC0A/OC0ALS/SDA (io), G2 PA1/SYNC/ADC1/AC1 (io), G3 PA4/SYNC/ADC4/AC4 (io), G4 PB3/SYNC/ADC3/AC3/DAC1 (io), G5 PB4/SYNC/ADC4/AC4/TMS (io), G6 PC1/SYNC/OC0B/OC0AHS/XCK0/SCL (io), G7 PC6/SYNC/OC0DLS/RXD1/MISO (io), G8 PD7/SYNC/TXD1/SCK/CLKOUT/EVOUT (io), G9 PD6/SYNC/RXD1/MISO (io), H2 PA2/SYNC/ASYNC/ADC2/AC2/DAC0 (io), H3 PA5/SYNC/ADC5/AC5 (io), H4 PB2/SYNC/ASYNC/ADC2/AC2/DAC0 (io), H5 PB5/SYNC/ADC5/AC5/TDI (io), H6 PC0/SYNC/OC0A/OC0ALS/SDA (io), H7 PC5/SYNC/OC0CHS/OC1B/XCK1/MOSI (io), H8 PD5/SYNC/OC1B/XCK1/MOSI (io), H9 PD4/SYNC/OC1A/~{SS} (io), H10 PD3/SYNC/OC0D/TXD0 (io), J1 PA0/SYNC/ADC0/AC0/AREF (io), J2 PA3/SYNC/ADC3/AC3/DAC1 (io), J3 PB0/SYNC/ADC0/AC0/AREF (io), J4 PB1/SYNC/ADC1/AC1 (io), J5 PB6/SYNC/ADC6/AC6/TCK (io), J6 PC3/SYNC/OC0D/OC0BHS/TXD0 (io), J7 PC4/SYNC/OC0CLS/OC1A/~{SS} (io), J8 PC7/SYNC/OC0DHS/TXD1/SCK/CLKOUT/EVOUT (io), J9 PD2/SYNC/ASYNC/OC0C/RXD0 (io), J10 PD1/SYNC/OC0B/XCK0/SCL (io), K1 PA6/SYNC/ADC6/AC6 (io), K2 PA7/SYNC/ADC7/AC7/AC0OUT (io), K5 PB7/SYNC/ADC7/AC7/AC0OUT/TDO (io), K10 PD0/SYNC/OC0A/SDA (io)
part B pins: A2 VCC (power), A3 GND (power), A5 VCC (power), A6 GND (power), A8 GND (power), A9 VCC (power), C1 VCC (power), C10 VCC (power), D1 GND (power), D10 GND (power), F10 VCC (power), G1 GND (power), G10 GND (power), H1 AVCC (power), K3 GND (power), K4 AVCC (power), K6 VCC (power), K7 GND (power), K8 VCC (power), K9 GND (power)

## ATxmega64A3-AU
designator U?
8/16-bit AVR XMEGA A3 Microcontroller, 1.6-3.6V, 64KB + 4KB Flash, 2KB EEPROM, 4KB SRAM, 64-pin TQFP, Industrial Grade (-40°C to 85°C), Pb-Free; Published: 1-Apr-2010; DatasheetVersion: revQ, Feb-2010; PackageVersion: revB, Oct-2001; PackageReference: 64A; Publisher: Altium Limited; PackageDescription: 64-Pin Plastic Thin Profile Quad Flat Pack, 14 x 14 x 1.0 mm Body, 0.8 mm Pitch (TQFP); Supplier 1: Digi-Key; Supplier Part Number 1: ATXMEGA64A3-AU-ND; Supplier 2: Farnell; Supplier Part Number 2: 1748559; Supplier 3: Mouser; Supplier Part Number 3: 556-ATXMEGA64A3-AU; Code_JEDEC: MS-026-AEB; ComponentLink1Description: Manufacturer Link; ComponentLink1URL: http://www.atmel.com/products/avr/default.asp?; ComponentLink2Description: ATxmega64A3/128A3/192A3/256A3 Datasheet; ComponentLink2URL: http://www.atmel.com/dyn/resources/prod_documents/doc8068.pdf; ComponentLink3Description: Atmel.com Home; ComponentLink3URL: http://www.atmel.com
footprint 64A_N (Thin QFP, 64-Leads, Body 14x14mm, Pitch 0.8mm, IPC Medium Density)
footprint 64A_L (Thin QFP, 64-Leads, Body 14x14mm, Pitch 0.8mm, IPC High Density)
footprint 64A_M (Thin QFP, 64-Leads, Body 14x14mm, Pitch 0.8mm, IPC Low Density)
part A pins: 1 PA3/SYNC/ADC3/AC3 (io), 2 PA4/SYNC/ADC4/AC4 (io), 3 PA5/SYNC/ADC5/AC5 (io), 4 PA6/SYNC/ADC6/AC6 (io), 5 PA7/SYNC/ADC7/AC7/AC0 OUT (io), 6 PB0/SYNC/ADC0/AC0/AREF (io), 7 PB1/SYNC/ADC1/AC1 (io), 8 PB2/SYNC/ASYNC/ADC2/AC2/DAC0 (io), 9 PB3/SYNC/ADC3/AC3/DAC1 (io), 10 PB4/SYNC/ADC4/AC4/TMS (io), 11 PB5/SYNC/ADC5/AC5/TDI (io), 12 PB6/SYNC/ADC6/AC6/TCK (io), 13 PB7/SYNC/ADC7/AC7/AC0 OUT/TDO (io), 16 PC0/SYNC/OC0A/OC0ALS/SDA (io), 17 PC1/SYNC/OC0B/OC0AHS/XCK0/SCL (io), 18 PC2/SYNC/ASYNC/OC0C/OC0BLS/RXD0 (io), 19 PC3/SYNC/OC0D/OC0BHS/TXD0 (io), 20 PC4/SYNC/OC0CLS/OC1A/SS (io), 21 PC5/SYNC/OC0CHS/OC1B/XCK1/MOSI (io), 22 PC6/SYNC/OC0DLS/RXD1/MISO (io), 23 PC7/SYNC/OC0DHS/TXD1/SCK/CLKOUT/EVOUT (io), 26 PD0/SYNC/OC0A (io), 27 PD1/SYNC/OC0B/XCK0 (io), 28 PD2/SYNC/ASYNC/OC0C/RXD0 (io), 29 PD3/SYNC/OC0D/TXD0 (io), 30 PD4/SYNC/OC1A/~{SS} (io), 31 PD5/SYNC/OC1B/XCK1/MOSI (io), 32 PD6/SYNC/RXD1/MISO (io), 33 PD7/SYNC/TXD1/SCK/CLKOUT/EVOUT (io), 36 PE0/SYNC/OC0A/SDA (io), 37 PE1/SYNC/OC0B/XCK0/SCL (io), 38 PE2/SYNC/ASYNC/OC0C/RXD0 (io), 39 PE3/SYNC/OC0D/TXD0 (io), 40 PE4/SYNC/OC1A/SS (io), 41 PE5/SYNC/OC1B/XCK1/MOSI (io), 42 PE6/SYNC/RXD1/MISO/TOSC2 (io), 43 PE7/SYNC/TXD1/SCK/CLKOUT/EVOUT/TOSC1 (io), 46 PF0/SYNC/OC0A (io), 47 PF1/SYNC/OC0B/XCK0 (io), 48 PF2/SYNC/ASYNC/OC0C/RXD0 (io), 49 PF3/SYNC/OC0D/TXD0 (io), 50 PF4/SYNC (io), 51 PF5/SYNC (io), 54 PF6/SYNC (io), 55 PF7/SYNC (io), 56 PDI/PDI_DATA (io), 57 ~{RESET}/PDI_CLOCK (in), 58 PR0/SYNC/XTAL2 (io), 59 PR1/SYNC/XTAL1 (io), 62 PA0/SYNC/ADC0/AC0/AREF (io), 63 PA1/SYNC/ADC1/AC1 (io), 64 PA2/SYNC/ASYNC/ADC2/AC2 (io)
part B pins: 14 GND (power), 15 VCC (power), 24 GND (power), 25 VCC (power), 34 GND (power), 35 VCC (power), 44 GND (power), 45 VCC (power), 52 GND (power), 53 VCC (power), 60 GND (power), 61 AVCC (power)

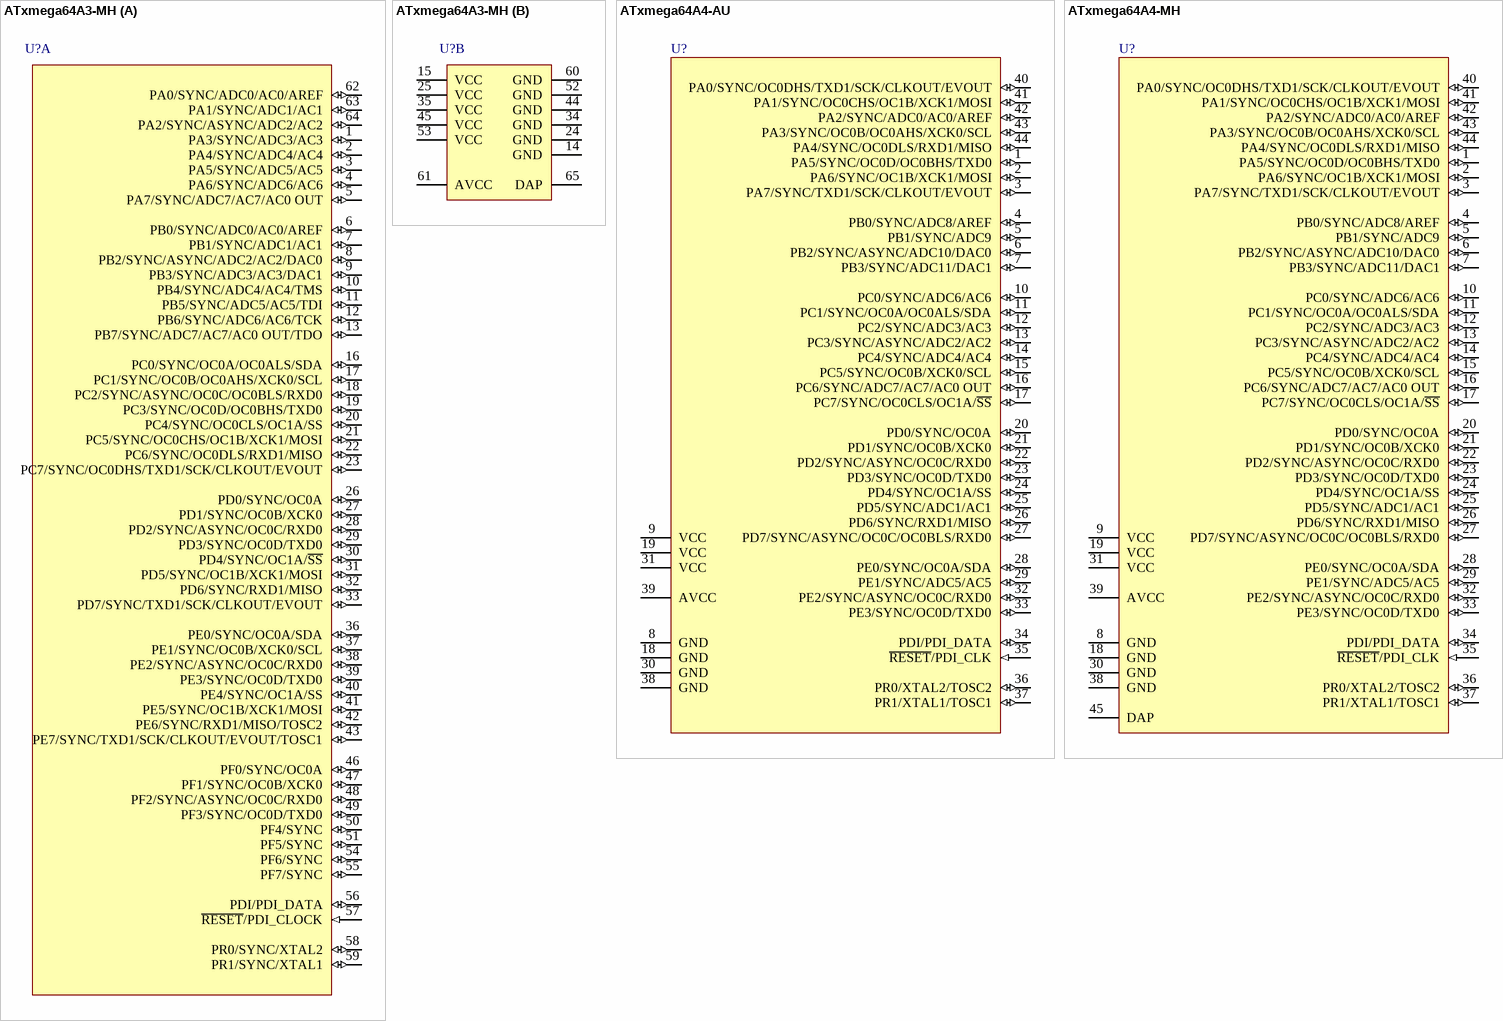
[diagram p4: symbols ATxmega64A3-MH to ATxmega64A4-MH]

## ATxmega64A3-MH
designator U?
8/16-bit AVR XMEGA A3 Microcontroller, 1.6-3.6V, 64KB + 4KB Flash, 2KB EEPROM, 4KB SRAM, 64-pin MLF, Industrial Grade (-40°C to 85°C), Pb-Free; Published: 1-Apr-2010; DatasheetVersion: revQ, Feb-2010; PackageVersion: revD, May-2006; PackageReference: 64M2; Publisher: Altium Limited; PackageDescription: 64-Pin Micro Lead Frame Package (MLF), 9 x 9 x 1.0 mm Body, 0.5 mm Pitch, 7.65 mm Exposed Pad; Supplier 1: Digi-Key; Supplier Part Number 1: ATXMEGA64A3-MH-ND; Supplier 2: Mouser; Supplier Part Number 2: 556-ATXMEGA64A3-MH; Code_JEDEC: MO-220VMMD; ComponentLink1Description: Manufacturer Link; ComponentLink1URL: http://www.atmel.com/products/avr/default.asp?; ComponentLink2Description: ATxmega64A3/128A3/192A3/256A3 Datasheet; ComponentLink2URL: http://www.atmel.com/dyn/resources/prod_documents/doc8068.pdf; ComponentLink3Description: Atmel.com Home; ComponentLink3URL: http://www.atmel.com
footprint 64M2_N (QFN, 64-Leads, Body 9x9mm, Pitch 0.5mm, IPC Medium Density)
footprint 64M2_L (QFN, 64-Leads, Body 9x9mm, Pitch 0.5mm, IPC High Density)
footprint 64M2_M (QFN, 64-Leads, Body 9x9mm, Pitch 0.5mm, IPC Low Density)
part A pins: 1 PA3/SYNC/ADC3/AC3 (io), 2 PA4/SYNC/ADC4/AC4 (io), 3 PA5/SYNC/ADC5/AC5 (io), 4 PA6/SYNC/ADC6/AC6 (io), 5 PA7/SYNC/ADC7/AC7/AC0 OUT (io), 6 PB0/SYNC/ADC0/AC0/AREF (io), 7 PB1/SYNC/ADC1/AC1 (io), 8 PB2/SYNC/ASYNC/ADC2/AC2/DAC0 (io), 9 PB3/SYNC/ADC3/AC3/DAC1 (io), 10 PB4/SYNC/ADC4/AC4/TMS (io), 11 PB5/SYNC/ADC5/AC5/TDI (io), 12 PB6/SYNC/ADC6/AC6/TCK (io), 13 PB7/SYNC/ADC7/AC7/AC0 OUT/TDO (io), 16 PC0/SYNC/OC0A/OC0ALS/SDA (io), 17 PC1/SYNC/OC0B/OC0AHS/XCK0/SCL (io), 18 PC2/SYNC/ASYNC/OC0C/OC0BLS/RXD0 (io), 19 PC3/SYNC/OC0D/OC0BHS/TXD0 (io), 20 PC4/SYNC/OC0CLS/OC1A/SS (io), 21 PC5/SYNC/OC0CHS/OC1B/XCK1/MOSI (io), 22 PC6/SYNC/OC0DLS/RXD1/MISO (io), 23 PC7/SYNC/OC0DHS/TXD1/SCK/CLKOUT/EVOUT (io), 26 PD0/SYNC/OC0A (io), 27 PD1/SYNC/OC0B/XCK0 (io), 28 PD2/SYNC/ASYNC/OC0C/RXD0 (io), 29 PD3/SYNC/OC0D/TXD0 (io), 30 PD4/SYNC/OC1A/~{SS} (io), 31 PD5/SYNC/OC1B/XCK1/MOSI (io), 32 PD6/SYNC/RXD1/MISO (io), 33 PD7/SYNC/TXD1/SCK/CLKOUT/EVOUT (io), 36 PE0/SYNC/OC0A/SDA (io), 37 PE1/SYNC/OC0B/XCK0/SCL (io), 38 PE2/SYNC/ASYNC/OC0C/RXD0 (io), 39 PE3/SYNC/OC0D/TXD0 (io), 40 PE4/SYNC/OC1A/SS (io), 41 PE5/SYNC/OC1B/XCK1/MOSI (io), 42 PE6/SYNC/RXD1/MISO/TOSC2 (io), 43 PE7/SYNC/TXD1/SCK/CLKOUT/EVOUT/TOSC1 (io), 46 PF0/SYNC/OC0A (io), 47 PF1/SYNC/OC0B/XCK0 (io), 48 PF2/SYNC/ASYNC/OC0C/RXD0 (io), 49 PF3/SYNC/OC0D/TXD0 (io), 50 PF4/SYNC (io), 51 PF5/SYNC (io), 54 PF6/SYNC (io), 55 PF7/SYNC (io), 56 PDI/PDI_DATA (io), 57 ~{RESET}/PDI_CLOCK (in), 58 PR0/SYNC/XTAL2 (io), 59 PR1/SYNC/XTAL1 (io), 62 PA0/SYNC/ADC0/AC0/AREF (io), 63 PA1/SYNC/ADC1/AC1 (io), 64 PA2/SYNC/ASYNC/ADC2/AC2 (io)
part B pins: 14 GND (power), 15 VCC (power), 24 GND (power), 25 VCC (power), 34 GND (power), 35 VCC (power), 44 GND (power), 45 VCC (power), 52 GND (power), 53 VCC (power), 60 GND (power), 61 AVCC (power), 65 DAP (power)

## ATxmega64A4-AU
designator U?
8/16-bit AVR XMEGA A4 Microcontroller, 1.6-3.6V, 64KB + 4KB Flash, 2KB EEPROM, 4KB SRAM, 44-pin TQFP, Industrial Grade (-40°C to 85°C), Pb-Free; Published: 1-Apr-2010; DatasheetVersion: revN, Feb-2010; PackageVersion: rev.B, Oct-2001; PackageReference: 44A; Publisher: Altium Limited; PackageDescription: 44-Pin Plastic Thin Profile Quad Flat Pack, 10 x 10 x 1.0 mm Body, 0.8 mm Pitch (TQFP); Supplier 1: Digi-Key; Supplier Part Number 1: ATXMEGA64A4-AU-ND; Supplier 2: Farnell; Supplier Part Number 2: 1748560; Supplier 3: Mouser; Supplier Part Number 3: 556-ATXMEGA64A4-AU; ComponentLink1Description: Manufacturer Link; ComponentLink1URL: http://www.atmel.com/products/avr/default.asp?; ComponentLink2Description: ATxmega16A4/32A4/64A4/128A4 Datasheet; ComponentLink2URL: http://www.atmel.com/dyn/resources/prod_documents/doc8069.pdf; ComponentLink3Description: Atmel.com Home; ComponentLink3URL: http://www.atmel.com
footprint 44A_N (Thin QFP, 44-Leads, Body 10x10mm, Pitch 0.8mm, IPC Medium Density)
footprint 44A_L (Thin QFP, 44-Leads, Body 10x10mm, Pitch 0.8mm, IPC High Density)
footprint 44A_M (Thin QFP, 44-Leads, Body 10x10mm, Pitch 0.8mm, IPC Low Density)
pins: 1 PA5/SYNC/OC0D/OC0BHS/TXD0 (io), 2 PA6/SYNC/OC1B/XCK1/MOSI (io), 3 PA7/SYNC/TXD1/SCK/CLKOUT/EVOUT (io), 4 PB0/SYNC/ADC8/AREF (io), 5 PB1/SYNC/ADC9 (io), 6 PB2/SYNC/ASYNC/ADC10/DAC0 (io), 7 PB3/SYNC/ADC11/DAC1 (io), 8 GND (power), 9 VCC (power), 10 PC0/SYNC/ADC6/AC6 (io), 11 PC1/SYNC/OC0A/OC0ALS/SDA (io), 12 PC2/SYNC/ADC3/AC3 (io), 13 PC3/SYNC/ASYNC/ADC2/AC2 (io), 14 PC4/SYNC/ADC4/AC4 (io), 15 PC5/SYNC/OC0B/XCK0/SCL (io), 16 PC6/SYNC/ADC7/AC7/AC0 OUT (io), 17 PC7/SYNC/OC0CLS/OC1A/~{SS} (io), 18 GND (power), 19 VCC (power), 20 PD0/SYNC/OC0A (io), 21 PD1/SYNC/OC0B/XCK0 (io), 22 PD2/SYNC/ASYNC/OC0C/RXD0 (io), 23 PD3/SYNC/OC0D/TXD0 (io), 24 PD4/SYNC/OC1A/SS (io), 25 PD5/SYNC/ADC1/AC1 (io), 26 PD6/SYNC/RXD1/MISO (io), 27 PD7/SYNC/ASYNC/OC0C/OC0BLS/RXD0 (io), 28 PE0/SYNC/OC0A/SDA (io), 29 PE1/SYNC/ADC5/AC5 (io), 30 GND (power), 31 VCC (power), 32 PE2/SYNC/ASYNC/OC0C/RXD0 (io), 33 PE3/SYNC/OC0D/TXD0 (io), 34 PDI/PDI_DATA (io), 35 ~{RESET}/PDI_CLK (in), 36 PR0/XTAL2/TOSC2 (io), 37 PR1/XTAL1/TOSC1 (io), 38 GND (power), 39 AVCC (power), 40 PA0/SYNC/OC0DHS/TXD1/SCK/CLKOUT/EVOUT (io), 41 PA1/SYNC/OC0CHS/OC1B/XCK1/MOSI (io), 42 PA2/SYNC/ADC0/AC0/AREF (io), 43 PA3/SYNC/OC0B/OC0AHS/XCK0/SCL (io), 44 PA4/SYNC/OC0DLS/RXD1/MISO (io)